# Altium integrated library Xilinx Virtex-E.IntLib: 288 symbols (part 42 of 73)
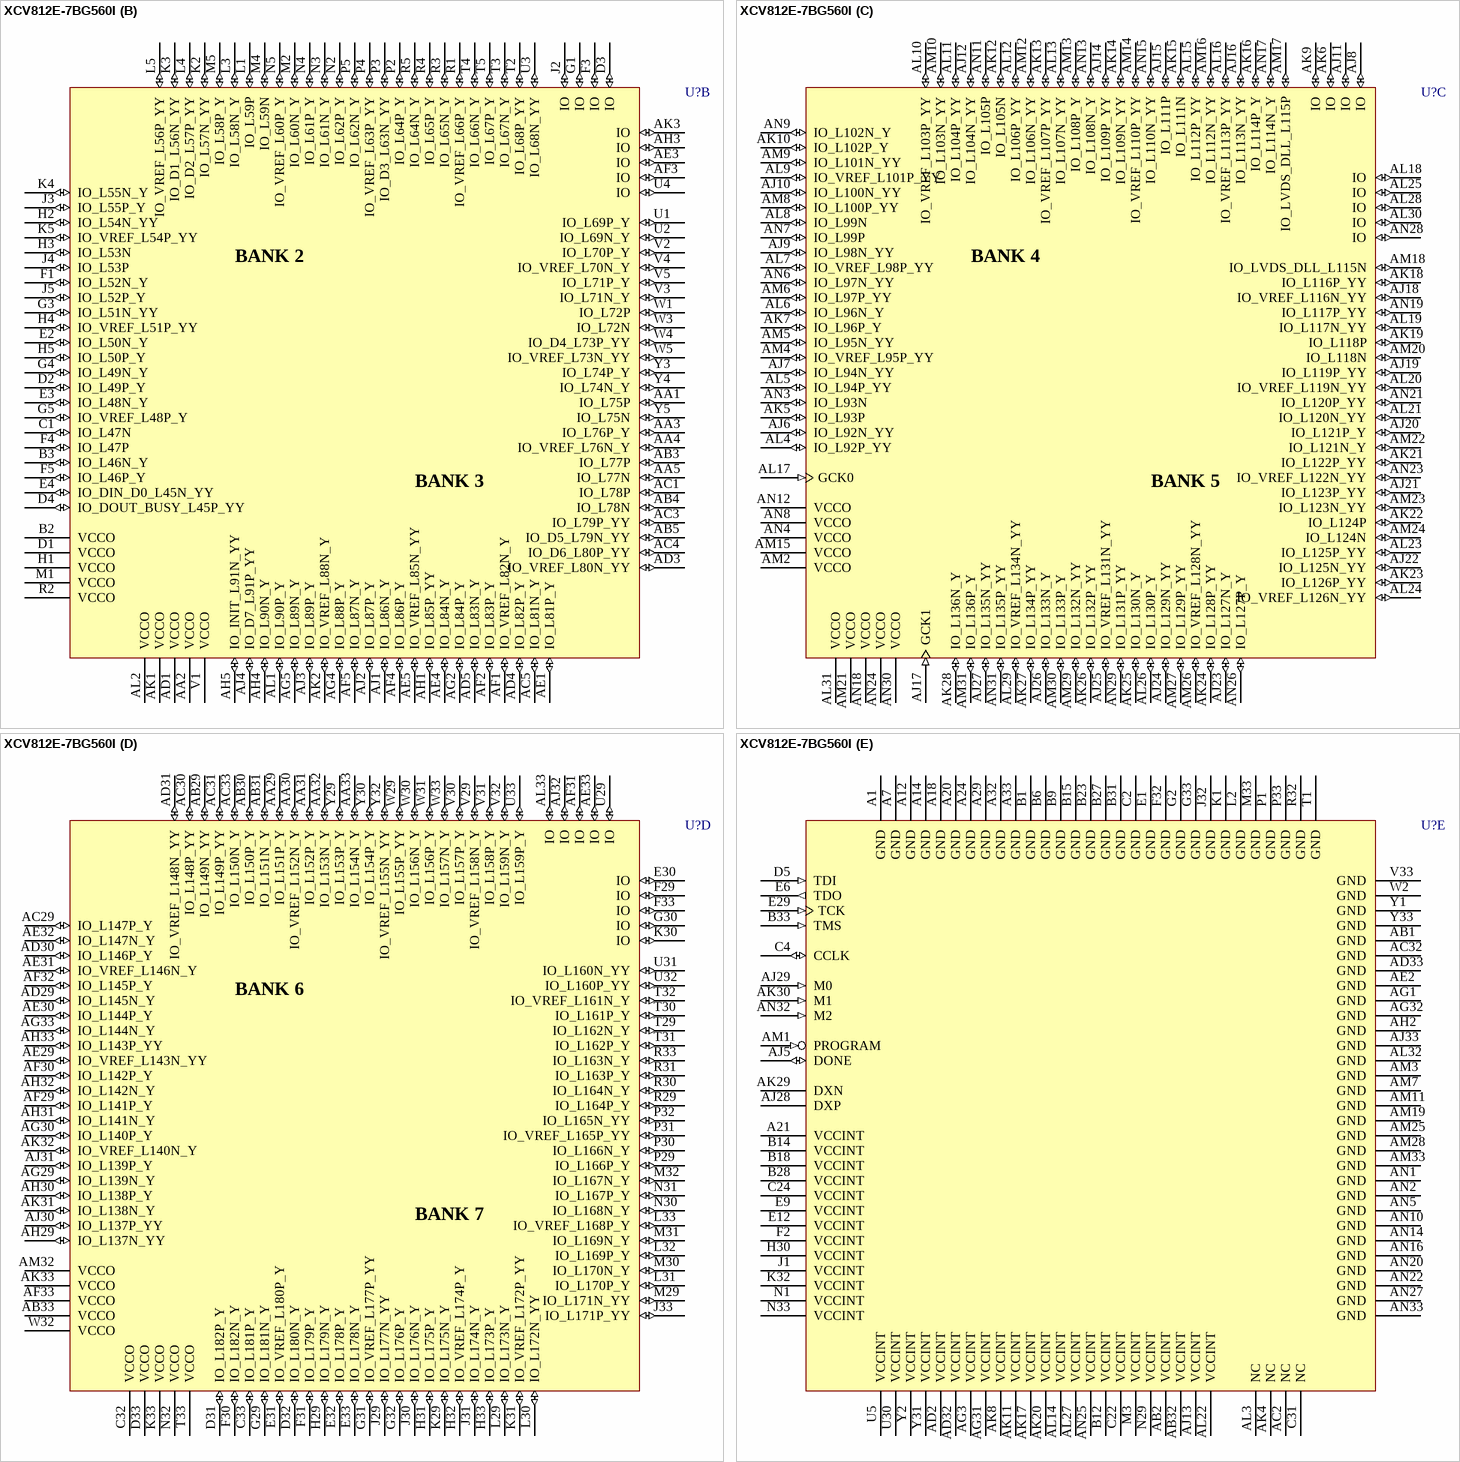
[diagram p430: symbol XCV812E-7BG560I]

## XCV812E-7BG560I
designator U?
Virtex-E 1.8V Extended Memory FPGA, 560-Ball BGA, Industrial Grade; PackageDocument: ver1.1, Apr-2001; Note: Solder pads are defined by the copper, i.e. non-soldermask defined (NSMD); Published: 19-Sep-2001; LatestRevisionDate: 17-Jul-2002; LatestRevisionNote: Re-released for DXP Platform.; DatasheetDocument: Mar-2003; PackageReference: BG560; Publisher: Altium Limited
footprint BG560 (560-Ball Metal Ball Grid Array (BG560))
3D model XCV812E-BG560 (560-Ball Metal Ball Grid Array (BG560))
signal-integrity model XCV812E_BG560 (Virtex-E)
part A pins: A2 IO_CS_L44P_YY (io), A3 IO (io), A4 IO_L42N_YY (io), A5 IO_L40N (io), A6 IO_VREF_L38P_YY (io), A8 IO_L36N_YY (io), A9 IO_L34P (io), A10 VCCO (power), A11 IO_L31N (io), A13 IO_L28N_Y (io), A15 IO_L25N (io), A16 VCCO (power), A17 GCK3 (in), A19 IO_VREF_L20N_YY (io), A22 VCCO (power), A23 IO_L13N_YY (io), A25 IO_L10P_YY (io), A26 VCCO (power), A27 IO (io), A28 IO_L6P (io), A30 VCCO (power), A31 IO_L1P_YY (io), B4 IO_L42P_YY (io), B5 IO_L40P (io), B7 IO_L38N_YY (io), B8 IO_L36P_YY (io), B10 IO_L33N_YY (io), B11 IO_L32N_YY (io), B13 VCCO (power), B16 IO_L23N_YY (io), B17 IO_L22P_Y (io), B19 VCCO (power), B20 IO_L18N (io), B21 IO_L16N_YY (io), B22 IO_L14P_YY (io), B24 IO_L11P_YY (io), B25 IO (io), B26 IO_L8P_YY (io), B29 IO_L4P_YY (io), B30 IO_L3N_Y (io), B32 VCCO (power), C3 VCCO (power), C5 IO_L43N_Y (io), C6 IO_L41N_YY (io), C7 IO_L39N_YY (io), C8 IO_L37P_Y (io), C9 IO_L35N_YY (io), C10 IO_L34N (io), C11 IO_L32P_YY (io), C12 IO_L30N_YY (io), C13 IO_L29N_YY (io), C14 IO_L27N_YY (io), C15 IO_L25P (io), C16 IO_L24P_YY (io), C17 IO_L22N_Y (io), C18 IO_LVDS_DLL_L21N (io), C19 IO_L19P_YY (io), C20 IO_L17P_YY (io), C21 IO_L15P_Y (io), C23 IO_L12P (io), C25 IO_L9N_Y (io), C26 IO_L7P_YY (io), C27 IO_L5P_YY (io), C28 IO (io), C29 IO_L2P_YY (io), C30 IO (io), D6 IO_WRITE_L44N_YY (io), D7 IO_VREF_L41P_YY (io), D8 IO_L39P_YY (io), D9 IO (io), D10 IO_VREF_L35P_YY (io), D11 IO_VREF_L33P_YY (io), D12 IO_L31P (io), D13 IO_VREF_L29P_YY (io), D14 IO_L27P_YY (io), D15 IO_L26N_YY (io), D16 IO_VREF_L23P_YY (io), D17 GCK2 (in), D18 IO_L20P_YY (io), D19 IO_L19N_YY (io), D20 IO_VREF_L17N_YY (io), D21 IO_L15N_Y (io), D22 IO_L13P_YY (io), D23 IO_L11N_YY (io), D24 IO_L9P_Y (io), D25 IO_L7N_YY (io), D26 IO_VREF_L5N_YY (io), D27 IO_L3P_Y (io), D28 IO_L1N_YY (io), D29 IO_L0P (io), D30 IO (io), E5 VCCO (power), E7 IO_L43P_Y (io), E8 IO (io), E10 IO_L37N_Y (io), E11 IO (io), E13 IO_L30P_YY (io), E14 IO_L28P_Y (io), E15 IO_VREF_L26P_YY (io), E16 IO_L24N_YY (io), E17 IO_LVDS_DLL_L21P (io), E18 IO (io), E19 IO_L18P (io), E20 IO_L16P_YY (io), E21 IO_VREF_L14N_YY (io), E22 IO_L12N (io), E23 IO_VREF_L10N_YY (io), E24 IO_VREF_L8N_YY (io), E25 IO_L6N (io), E26 IO_L4N_YY (io), E27 IO_VREF_L2N_YY (io), E28 IO_L0N (io)
part B pins: AA1 IO_L75P (io), AA2 VCCO (power), AA3 IO_L76P_Y (io), AA4 IO_VREF_L76N_Y (io), AA5 IO_L77N (io), AB3 IO_L77P (io), AB4 IO_L78N (io), AB5 IO_D5_L79N_YY (io), AC1 IO_L78P (io), AC3 IO_L79P_YY (io), AC4 IO_D6_L80P_YY (io), AC5 IO_L81N_Y (io), AD1 VCCO (power), AD3 IO_VREF_L80N_YY (io), AD4 IO_L82P_Y (io), AD5 IO_L83N_Y (io), AE1 IO_L81P_Y (io), AE3 IO (io), AE4 IO_L84N_Y (io), AE5 IO_VREF_L85N_YY (io), AF1 IO_VREF_L82N_Y (io), AF2 IO_L83P_Y (io), AF3 IO (io), AF4 IO_L86P_Y (io), AF5 IO_L87N_Y (io), AG2 IO_L84P_Y (io), AG4 IO_L88P_Y (io), AG5 IO_L89N_Y (io), AH1 IO_L85P_YY (io), AH3 IO (io), AH4 IO_L90N_Y (io), AH5 IO_INIT_L91N_YY (io), AJ1 IO_L86N_Y (io), AJ2 IO_L87P_Y (io), AJ3 IO_L89P_Y (io), AJ4 IO_D7_L91P_YY (io), AK1 VCCO (power), AK2 IO_VREF_L88N_Y (io), AK3 IO (io), AL1 IO_L90P_Y (io), AL2 VCCO (power), B2 VCCO (power), B3 IO_L46N_Y (io), C1 IO_L47N (io), D1 VCCO (power), D2 IO_L49P_Y (io), D3 IO (io), D4 IO_DOUT_BUSY_L45P_YY (io), E2 IO_L50N_Y (io), E3 IO_L48N_Y (io), E4 IO_DIN_D0_L45N_YY (io), F1 IO_L52N_Y (io), F3 IO (io), F4 IO_L47P (io), F5 IO_L46P_Y (io), G1 IO (io), G3 IO_L51N_YY (io), G4 IO_L49N_Y (io), G5 IO_VREF_L48P_Y (io), H1 VCCO (power), H2 IO_L54N_YY (io), H3 IO_L53N (io), H4 IO_VREF_L51P_YY (io), H5 IO_L50P_Y (io), J2 IO (io), J3 IO_L55P_Y (io), J4 IO_L53P (io), J5 IO_L52P_Y (io), K2 IO_L57N_YY (io), K3 IO_D1_L56N_YY (io), K4 IO_L55N_Y (io), K5 IO_VREF_L54P_YY (io), L1 IO_L59P (io), L3 IO_L58N_Y (io), L4 IO_D2_L57P_YY (io), L5 IO_VREF_L56P_YY (io), M1 VCCO (power), M2 IO_L60N_Y (io), M4 IO_L59N (io), M5 IO_L58P_Y (io), N2 IO_L62P_Y (io), N3 IO_L61N_Y (io), N4 IO_L61P_Y (io), N5 IO_VREF_L60P_Y (io), P2 IO_L64P_Y (io), P3 IO_D3_L63N_YY (io), P4 IO_VREF_L63P_YY (io), P5 IO_L62N_Y (io), R1 IO_VREF_L66P_Y (io), R2 VCCO (power), R3 IO_L65N_Y (io), R4 IO_L65P_Y (io), R5 IO_L64N_Y (io), T2 IO_L68P_YY (io), T3 IO_L67N_Y (io), T4 IO_L66N_Y (io), T5 IO_L67P_Y (io), U1 IO_L69P_Y (io), U2 IO_L69N_Y (io), U3 IO_L68N_YY (io), U4 IO (io), V1 VCCO (power), V2 IO_L70P_Y (io), V3 IO_L71N_Y (io), V4 IO_VREF_L70N_Y (io), V5 IO_L71P_Y (io), W1 IO_L72P (io), W3 IO_L72N (io), W4 IO_D4_L73P_YY (io), W5 IO_VREF_L73N_YY (io), Y3 IO_L74P_Y (io), Y4 IO_L74N_Y (io), Y5 IO_L75N (io)
part C pins: AJ6 IO_L92N_YY (io), AJ7 IO_L94N_YY (io), AJ8 IO (io), AJ9 IO_L98N_YY (io), AJ10 IO_L100N_YY (io), AJ11 IO (io), AJ12 IO_L104N_YY (io), AJ14 IO_L109P_YY (io), AJ15 IO_L111P (io), AJ16 IO_L113N_YY (io), AJ17 GCK1 (in), AJ18 IO_VREF_L116N_YY (io), AJ19 IO_L119P_YY (io), AJ20 IO_L121P_Y (io), AJ21 IO_L123P_YY (io), AJ22 IO_L125N_YY (io), AJ23 IO_L127N_Y (io), AJ24 IO_L129N_YY (io), AJ25 IO_VREF_L131N_YY (io), AJ26 IO_L133N_Y (io), AJ27 IO_L135N_YY (io), AK5 IO_L93P (io), AK6 IO (io), AK7 IO_L96P_Y (io), AK9 IO (io), AK10 IO_L102P_Y (io), AK12 IO_L105N (io), AK13 IO_VREF_L107P_YY (io), AK14 IO_L109N_YY (io), AK15 IO_L111N (io), AK16 IO_L114P_Y (io), AK18 IO_L116P_YY (io), AK19 IO_L118P (io), AK21 IO_L122P_YY (io), AK22 IO_L124P (io), AK23 IO_L126P_YY (io), AK24 IO_L128P_YY (io), AK25 IO_L130N_Y (io), AK26 IO_L132P_YY (io), AK27 IO_L134P_YY (io), AK28 IO_L136N_Y (io), AL4 IO_L92P_YY (io), AL5 IO_L94P_YY (io), AL6 IO_L96N_Y (io), AL7 IO_VREF_L98P_YY (io), AL8 IO_L99N (io), AL9 IO_VREF_L101P_YY (io), AL10 IO_VREF_L103P_YY (io), AL11 IO_L104P_YY (io), AL12 IO_L106P_YY (io), AL13 IO_L107N_YY (io), AL15 IO_L112P_YY (io), AL16 IO_VREF_L113P_YY (io), AL17 GCK0 (in), AL18 IO (io), AL19 IO_L117N_YY (io), AL20 IO_VREF_L119N_YY (io), AL21 IO_L120N_YY (io), AL23 IO_L125P_YY (io), AL24 IO_VREF_L126N_YY (io), AL25 IO (io), AL26 IO_L130P_Y (io), AL28 IO (io), AL29 IO_VREF_L134N_YY (io), AL30 IO (io), AL31 VCCO (power), AM2 VCCO (power), AM4 IO_VREF_L95P_YY (io), AM5 IO_L95N_YY (io), AM6 IO_L97P_YY (io), AM8 IO_L100P_YY (io), AM9 IO_L101N_YY (io), AM10 IO_L103N_YY (io), AM12 IO_L106N_YY (io), AM13 IO_L108P_Y (io), AM14 IO_VREF_L110P_YY (io), AM15 VCCO (power), AM16 IO_L112N_YY (io), AM17 IO_LVDS_DLL_L115P (io), AM18 IO_LVDS_DLL_L115N (io), AM20 IO_L118N (io), AM21 VCCO (power), AM22 IO_L121N_Y (io), AM23 IO_L123N_YY (io), AM24 IO_L124N (io), AM26 IO_VREF_L128N_YY (io), AM27 IO_L129P_YY (io), AM29 IO_L132N_YY (io), AM30 IO_L133P_Y (io), AM31 IO_L136P_Y (io), AN3 IO_L93N (io), AN4 VCCO (power), AN6 IO_L97N_YY (io), AN7 IO_L99P (io), AN8 VCCO (power), AN9 IO_L102N_Y (io), AN11 IO_L105P (io), AN12 VCCO (power), AN13 IO_L108N_Y (io), AN15 IO_L110N_YY (io), AN17 IO_L114N_Y (io), AN18 VCCO (power), AN19 IO_L117P_YY (io), AN21 IO_L120P_YY (io), AN23 IO_VREF_L122N_YY (io), AN24 VCCO (power), AN26 IO_L127P_Y (io), AN28 IO (io), AN29 IO_L131P_YY (io), AN30 VCCO (power), AN31 IO_L135P_YY (io)
part D pins: AA29 IO_L151P_Y (io), AA30 IO_VREF_L152N_Y (io), AA31 IO_L152P_Y (io), AA32 IO_L153N_Y (io), AA33 IO_L154N_Y (io), AB29 IO_L149N_YY (io), AB30 IO_L150P_Y (io), AB31 IO_L151N_Y (io), AB33 VCCO (power), AC29 IO_L147P_Y (io), AC30 IO_L148P_YY (io), AC31 IO_L149P_YY (io), AC33 IO_L150N_Y (io), AD29 IO_L145N_Y (io), AD30 IO_L146P_Y (io), AD31 IO_VREF_L148N_YY (io), AE29 IO_VREF_L143N_YY (io), AE30 IO_L144P_Y (io), AE31 IO_VREF_L146N_Y (io), AE32 IO_L147N_Y (io), AE33 IO (io), AF29 IO_L141P_Y (io), AF30 IO_L142P_Y (io), AF31 IO (io), AF32 IO_L145P_Y (io), AF33 VCCO (power), AG29 IO_L139N_Y (io), AG30 IO_L140P_Y (io), AG33 IO_L144N_Y (io), AH29 IO_L137N_YY (io), AH30 IO_L138P_Y (io), AH31 IO_L141N_Y (io), AH32 IO_L142N_Y (io), AH33 IO_L143P_YY (io), AJ30 IO_L137P_YY (io), AJ31 IO_L139P_Y (io), AJ32 IO (io), AK31 IO_L138N_Y (io), AK32 IO_VREF_L140N_Y (io), AK33 VCCO (power), AL33 IO (io), AM32 VCCO (power), C32 VCCO (power), C33 IO_L181P_Y (io), D31 IO_L182P_Y (io), D32 IO_L180N_Y (io), D33 VCCO (power), E30 IO (io), E31 IO_VREF_L180P_Y (io), E32 IO_L178P_Y (io), E33 IO_L178N_Y (io), F29 IO (io), F30 IO_L182N_Y (io), F31 IO_L179P_Y (io), F33 IO (io), G29 IO_L181N_Y (io), G30 IO (io), G31 IO_VREF_L177P_YY (io), G32 IO_L176P_Y (io), H29 IO_L179N_Y (io), H31 IO_L175P_Y (io), H32 IO_VREF_L174P_Y (io), H33 IO_L173P_Y (io), J29 IO_L177N_YY (io), J30 IO_L176N_Y (io), J31 IO_L174N_Y (io), J33 IO_L171P_YY (io), K29 IO_L175N_Y (io), K30 IO (io), K31 IO_VREF_L172P_YY (io), K33 VCCO (power), L29 IO_L173N_Y (io), L30 IO_L172N_YY (io), L31 IO_L170P_Y (io), L32 IO_L169P_Y (io), L33 IO_VREF_L168P_Y (io), M29 IO_L171N_YY (io), M30 IO_L170N_Y (io), M31 IO_L169N_Y (io), M32 IO_L167N_Y (io), N30 IO_L168N_Y (io), N31 IO_L167P_Y (io), N32 VCCO (power), P29 IO_L166P_Y (io), P30 IO_L166N_Y (io), P31 IO_VREF_L165P_YY (io), P32 IO_L165N_YY (io), R29 IO_L164P_Y (io), R30 IO_L164N_Y (io), R31 IO_L163P_Y (io), R33 IO_L163N_Y (io), T29 IO_L162N_Y (io), T30 IO_L161P_Y (io), T31 IO_L162P_Y (io), T32 IO_VREF_L161N_Y (io), T33 VCCO (power), U29 IO (io), U31 IO_L160N_YY (io), U32 IO_L160P_YY (io), U33 IO_L159P_Y (io), V29 IO_VREF_L158N_Y (io), V30 IO_L157P_Y (io), V31 IO_L158P_Y (io), V32 IO_L159N_Y (io), W29 IO_L155P_YY (io), W30 IO_L156N_Y (io), W31 IO_L156P_Y (io), W32 VCCO (power), W33 IO_L157N_Y (io), Y29 IO_L153P_Y (io), Y30 IO_L154P_Y (io), Y32 IO_VREF_L155N_YY (io)
part E pins: A1 GND (power), A7 GND (power), A12 GND (power), A14 GND (power), A18 GND (power), A20 GND (power), A21 VCCINT (power), A24 GND (power), A29 GND (power), A32 GND (power), A33 GND (power), AB1 GND (power), AB2 VCCINT (power), AB32 VCCINT (power), AC2 NC, AC32 GND (power), AD2 VCCINT (power), AD32 VCCINT (power), AD33 GND (power), AE2 GND (power), AG1 GND (power), AG3 VCCINT (power), AG31 VCCINT (power), AG32 GND (power), AH2 GND (power), AJ5 DONE (io), AJ13 VCCINT (power), AJ28 DXP, AJ29 M0 (in), AJ33 GND (power), AK4 NC, AK8 VCCINT (power), AK11 VCCINT (power), AK17 VCCINT (power), AK20 VCCINT (power), AK29 DXN, AK30 M1 (in), AL3 NC, AL14 VCCINT (power), AL22 VCCINT (power), AL27 VCCINT (power), AL32 GND (power), AM1 PROGRAM (in), AM3 GND (power), AM7 GND (power), AM11 GND (power), AM19 GND (power), AM25 GND (power), AM28 GND (power), AM33 GND (power), AN1 GND (power), AN2 GND (power), AN5 GND (power), AN10 GND (power), AN14 GND (power), AN16 GND (power), AN20 GND (power), AN22 GND (power), AN25 VCCINT (power), AN27 GND (power), AN32 M2 (in), AN33 GND (power), B1 GND (power), B6 GND (power), B9 GND (power), B12 VCCINT (power), B14 VCCINT (power), B15 GND (power), B18 VCCINT (power), B23 GND (power), B27 GND (power), B28 VCCINT (power), B31 GND (power), B33 TMS (in), C2 GND (power), C4 CCLK (io), C22 VCCINT (power), C24 VCCINT (power), C31 NC, D5 TDI (in), E1 GND (power), E6 TDO (out), E9 VCCINT (power), E12 VCCINT (power), E29 TCK (in), F2 VCCINT (power), F32 GND (power), G2 GND (power), G33 GND (power), H30 VCCINT (power), J1 VCCINT (power), J32 GND (power), K1 GND (power), K32 VCCINT (power), L2 GND (power), M3 VCCINT (power), M33 GND (power), N1 VCCINT (power), N29 VCCINT (power), N33 VCCINT (power), P1 GND (power), P33 GND (power), R32 GND (power), T1 GND (power), U5 VCCINT (power), U30 VCCINT (power), V33 GND (power), W2 GND (power), Y1 GND (power), Y2 VCCINT (power), Y31 VCCINT (power), Y33 GND (power)
part A text: BANK 0; BANK 1
part B text: BANK 2; BANK 3
part C text: BANK 4; BANK 5
part D text: BANK 6; BANK 7

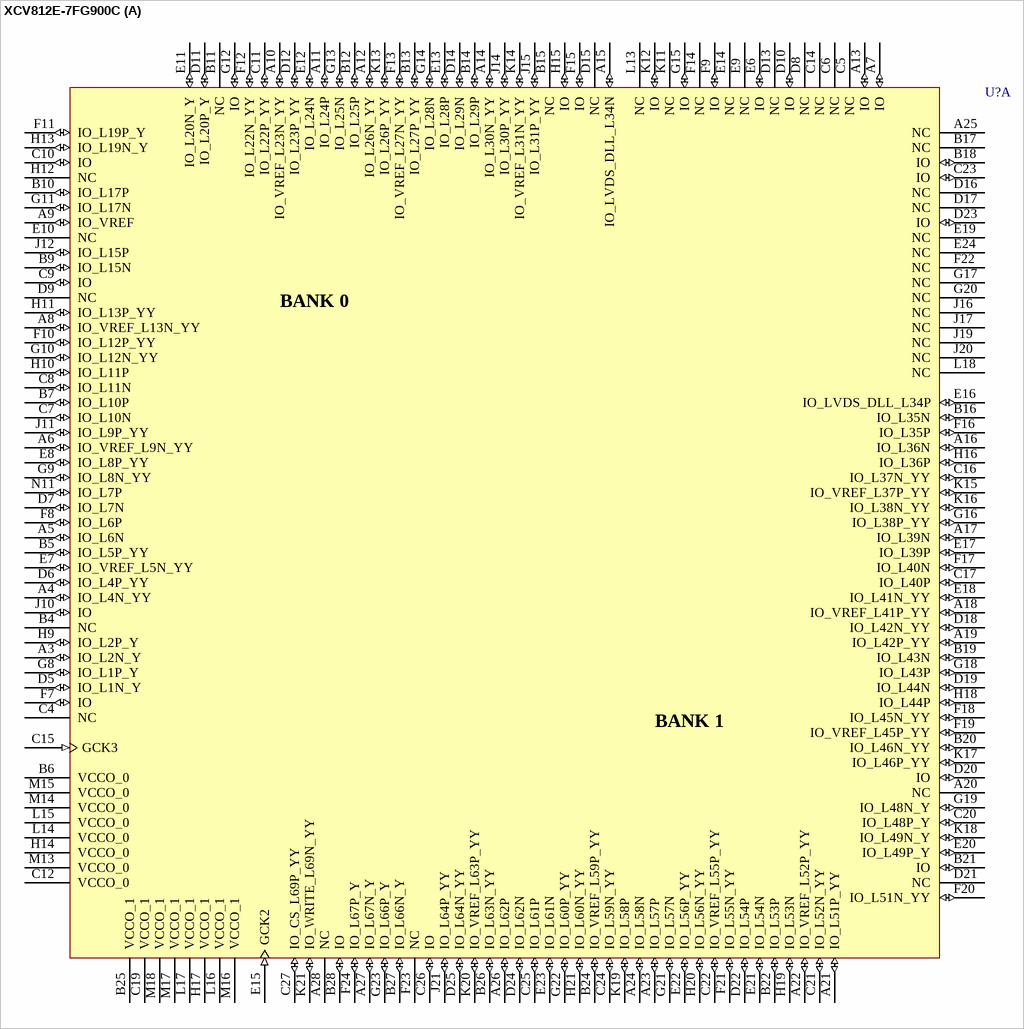
[diagram p296: symbol XCV812E-7FG900C]

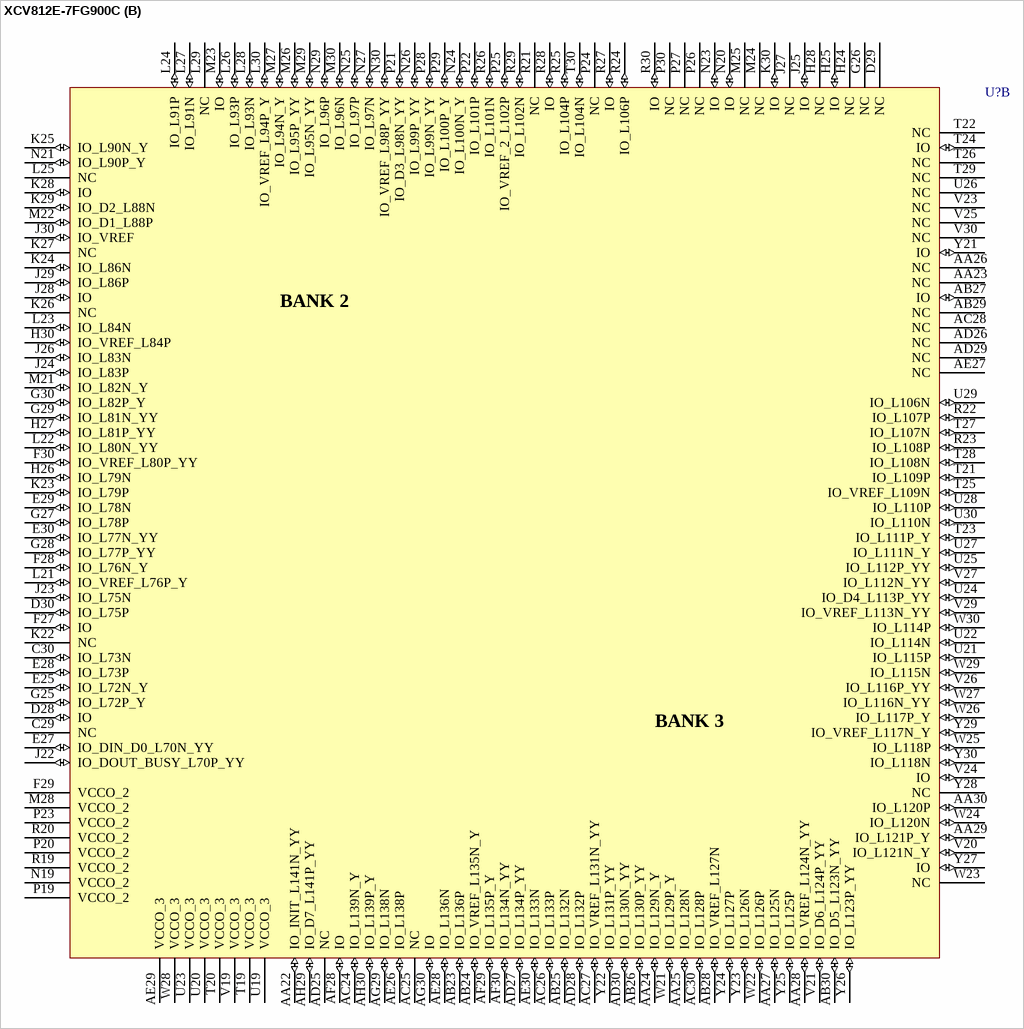
[diagram p297: symbol XCV812E-7FG900C]

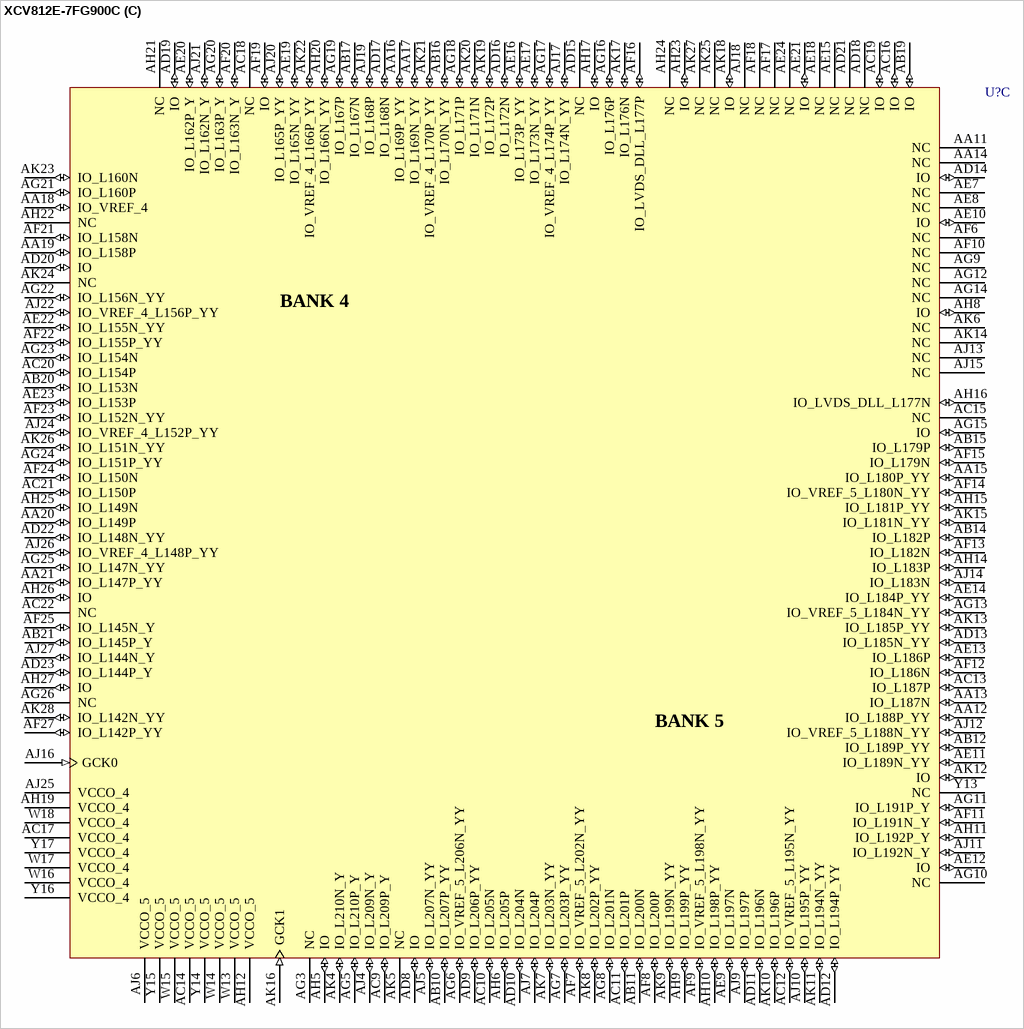
[diagram p298: symbol XCV812E-7FG900C]

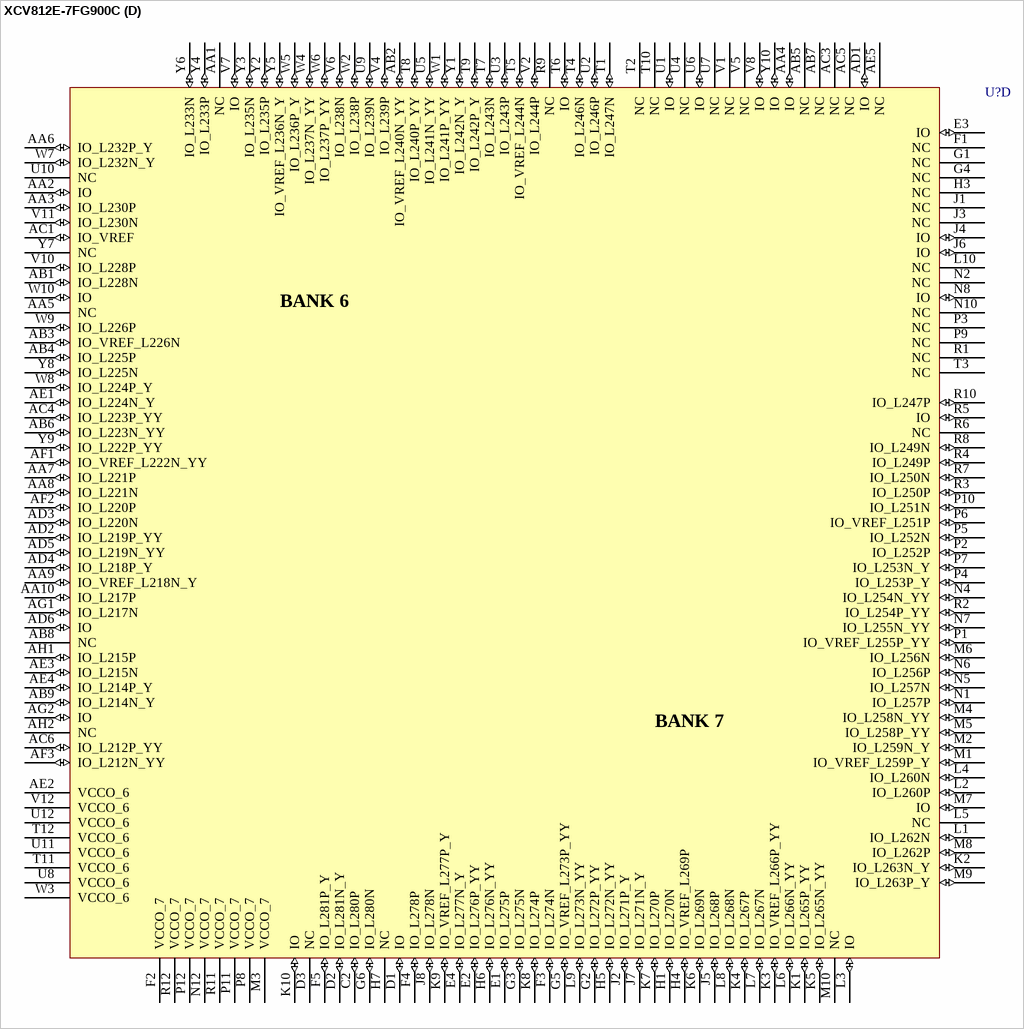
[diagram p299: symbol XCV812E-7FG900C]

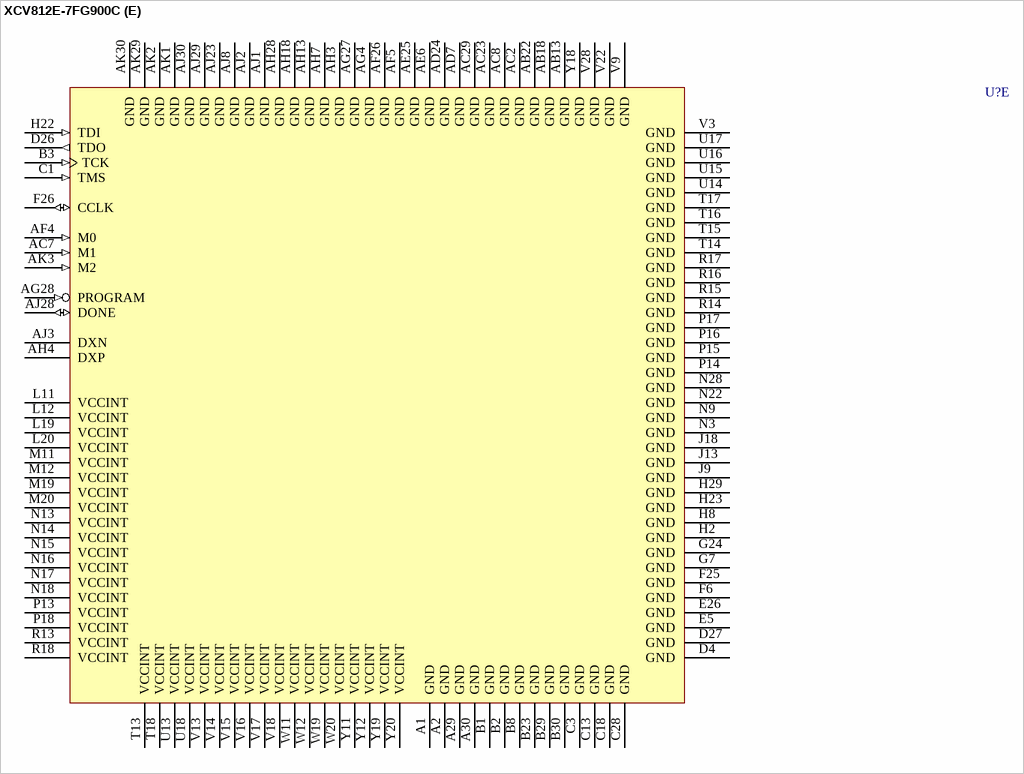
[diagram p300: symbol XCV812E-7FG900C]

## XCV812E-7FG900C
designator U?
Virtex-E 1.8V Extended Memory FPGA, 900-Ball FBGA, Commercial Grade; PackageDocument: ver1.1, Apr-2001; Note: Solder pads are defined by the copper, i.e. non-soldermask defined (NSMD); Published: 19-Sep-2001; LatestRevisionDate: 17-Jul-2002; LatestRevisionNote: Re-released for DXP Platform.; DatasheetDocument: Mar-2003; PackageReference: FG900; Publisher: Altium Limited; Code_IPC: PBGA 31X31 FE900
footprint FG900 (900-Ball Fine Pitch Ball Grid Array (FG900))
3D model XCV812E-FG900 (900-Ball Fine Pitch Ball Grid Array (FG900))
signal-integrity model XCV812E_FG900 (Virtex-E)
part A pins: A3 IO_L2N_Y (io), A4 IO_L4N_YY (io), A5 IO_L6N (io), A6 IO_VREF_L9N_YY (io), A7 IO (io), A8 IO_VREF_L13N_YY (io), A9 IO_VREF (io), A10 IO_VREF_L23N_YY (io), A11 IO_L24P (io), A12 IO_L26N_YY (io), A13 IO (io), A14 IO_L30N_YY (io), A15 IO_LVDS_DLL_L34N (io), A16 IO_L36N (io), A17 IO_L39N (io), A18 IO_VREF_L41P_YY (io), A19 IO_L42P_YY (io), A20 NC, A21 IO_L51P_YY (io), A22 IO_VREF_L52P_YY (io), A23 IO_L57P (io), A24 IO_L58N (io), A25 NC, A26 IO_L62P (io), A27 IO_L67N_Y (io), A28 NC, B4 NC, B5 IO_L5P_YY (io), B6 VCCO_0 (power), B7 IO_L10P (io), B9 IO_L15N (io), B10 IO_L17P (io), B11 NC, B12 IO_L25P (io), B13 IO_L27P_YY (io), B14 IO_L29P (io), B15 NC, B16 IO_L35N (io), B17 NC, B18 IO (io), B19 IO_L43N (io), B20 IO_L46N_YY (io), B21 IO (io), B22 IO_L53P (io), B24 IO_VREF_L59P_YY (io), B25 VCCO_1 (power), B26 IO_L63N_YY (io), B27 IO_L66N_Y (io), B28 IO (io), C4 NC, C5 NC, C6 NC, C7 IO_L10N (io), C8 IO_L11N (io), C9 IO (io), C10 IO (io), C11 IO_L22P_YY (io), C12 VCCO_0 (power), C14 NC, C15 GCK3 (in), C16 IO_L37N_YY (io), C17 IO_L40P (io), C19 VCCO_1 (power), C20 IO_L48P_Y (io), C21 IO_L52N_YY (io), C22 IO_VREF_L55P_YY (io), C23 IO (io), C24 IO_L59N_YY (io), C25 IO_L61P (io), C26 IO (io), C27 IO_CS_L69P_YY (io), D5 IO_L1N_Y (io), D6 IO_L4P_YY (io), D7 IO_L7N (io), D8 NC, D9 NC, D10 IO (io), D11 IO_L20P_Y (io), D12 IO_L23P_YY (io), D13 NC, D14 IO_L29N (io), D15 NC, D16 NC, D17 NC, D18 IO_L42N_YY (io), D19 IO_L44N (io), D20 IO (io), D21 NC, D22 IO_L54P (io), D23 IO (io), D24 IO_L62N (io), D25 IO_L64N_YY (io), E6 IO (io), E7 IO_VREF_L5N_YY (io), E8 IO_L8P_YY (io), E9 NC, E10 NC, E11 IO_L20N_Y (io), E12 IO_L24N (io), E13 IO_L28P (io), E14 NC, E15 GCK2 (in), E16 IO_LVDS_DLL_L34P (io), E17 IO_L39P (io), E18 IO_L41N_YY (io), E19 NC, E20 IO_L49P_Y (io), E21 IO_L54N (io), E22 IO_L56P_YY (io), E23 IO_L61N (io), E24 NC, F7 IO (io), F8 IO_L6P (io), F9 IO (io), F10 IO_L12P_YY (io), F11 IO_L19P_Y (io), F12 IO_L22N_YY (io), F13 IO_VREF_L27N_YY (io), F14 NC, F15 IO (io), F16 IO_L35P (io), F17 IO_L40N (io), F18 IO_L45N_YY (io), F19 IO_VREF_L45P_YY (io), F20 IO_L51N_YY (io), F21 IO_L55N_YY (io), F22 NC, F23 NC, F24 IO_L67P_Y (io), G8 IO_L1P_Y (io), G9 IO_L8N_YY (io), G10 IO_L12N_YY (io), G11 IO_L17N (io), G12 IO (io), G13 IO_L25N (io), G14 IO_L28N (io), G15 IO (io), G16 IO_L38P_YY (io), G17 NC, G18 IO_L43P (io), G19 IO_L48N_Y (io), G20 NC, G21 IO_L57N (io), G22 IO_L60P_YY (io), G23 IO_L66P_Y (io), H9 IO_L2P_Y (io), H10 IO_L11P (io), H11 IO_L13P_YY (io), H12 NC, H13 IO_L19N_Y (io), H14 VCCO_0 (power), H15 IO (io), H16 IO_L36P (io), H17 VCCO_1 (power), H18 IO_L44P (io), H19 IO_L53N (io), H20 IO_L56N_YY (io), H21 IO_L60N_YY (io), J10 IO (io), J11 IO_L9P_YY (io), J12 IO_L15P (io), J14 IO_L30P_YY (io), J15 IO_L31P_YY (io), J16 NC, J17 NC, J19 NC, J20 NC, J21 IO_L64P_YY (io), K11 NC, K12 IO (io), K13 IO_L26P_YY (io), K14 IO_VREF_L31N_YY (io), K15 IO_VREF_L37P_YY (io), K16 IO_L38N_YY (io), K17 IO_L46P_YY (io), K18 IO_L49N_Y (io), K19 IO_L58P (io), K20 IO_VREF_L63P_YY (io), K21 IO_WRITE_L69N_YY (io), L13 NC, L14 VCCO_0 (power), L15 VCCO_0 (power), L16 VCCO_1 (power), L17 VCCO_1 (power), L18 NC, M13 VCCO_0 (power), M14 VCCO_0 (power), M15 VCCO_0 (power), M16 VCCO_1 (power), M17 VCCO_1 (power), M18 VCCO_1 (power), N11 IO_L7P (io)
part B pins: AA22 IO_INIT_L141N_YY (io), AA23 NC, AA24 IO_L129N_Y (io), AA25 IO_L128N (io), AA26 NC, AA27 IO_L125N (io), AA28 IO_VREF_L124N_YY (io), AA29 IO_L121P_Y (io), AA30 IO_L120P (io), AB23 IO_L136P (io), AB24 IO_VREF_L135N_Y (io), AB25 IO_L132N (io), AB26 IO_L130P_YY (io), AB27 IO (io), AB28 IO_VREF_L127N (io), AB29 NC, AB30 IO_D5_L123N_YY (io), AC24 IO_L139N_Y (io), AC25 NC, AC26 IO_L133P (io), AC27 IO_VREF_L131N_YY (io), AC28 NC, AC30 IO_L128P (io), AD25 NC, AD26 NC, AD27 IO_L134P_YY (io), AD28 IO_L132P (io), AD29 NC, AD30 IO_L130N_YY (io), AE26 IO_L138P (io), AE27 NC, AE28 IO_L136N (io), AE29 VCCO_3 (power), AE30 IO_L133N (io), AF28 IO (io), AF29 IO_L135P_Y (io), AF30 IO_L134N_YY (io), AG29 IO_L138N (io), AG30 IO (io), AH29 IO_D7_L141P_YY (io), AH30 IO_L139P_Y (io), C29 NC, C30 IO_L73N (io), D28 IO (io), D29 NC, D30 IO_L75P (io), E25 IO_L72N_Y (io), E27 IO_DIN_D0_L70N_YY (io), E28 IO_L73P (io), E29 IO_L78N (io), E30 IO_L77N_YY (io), F27 IO (io), F28 IO_L76N_Y (io), F29 VCCO_2 (power), F30 IO_VREF_L80P_YY (io), G25 IO_L72P_Y (io), G26 NC, G27 IO_L78P (io), G28 IO_L77P_YY (io), G29 IO_L81N_YY (io), G30 IO_L82P_Y (io), H24 NC, H25 IO (io), H26 IO_L79N (io), H27 IO_L81P_YY (io), H28 NC, H30 IO_VREF_L84P (io), J22 IO_DOUT_BUSY_L70P_YY (io), J23 IO_L75N (io), J24 IO_L83P (io), J25 IO (io), J26 IO_L83N (io), J27 NC, J28 IO (io), J29 IO_L86P (io), J30 IO_VREF (io), K22 NC, K23 IO_L79P (io), K24 IO_L86N (io), K25 IO_L90N_Y (io), K26 NC, K27 NC, K28 IO (io), K29 IO_D2_L88N (io), K30 IO (io), L21 IO_VREF_L76P_Y (io), L22 IO_L80N_YY (io), L23 IO_L84N (io), L24 IO_L91P (io), L25 NC, L26 IO_L93P (io), L27 IO_L91N (io), L28 IO_L93N (io), L29 NC, L30 IO_VREF_L94P_Y (io), M21 IO_L82N_Y (io), M22 IO_D1_L88P (io), M23 IO (io), M24 NC, M25 NC, M26 IO_L95P_YY (io), M27 IO_L94N_Y (io), M28 VCCO_2 (power), M29 IO_L95N_YY (io), M30 IO_L96N (io), N19 VCCO_2 (power), N20 IO (io), N21 IO_L90P_Y (io), N23 IO (io), N24 IO_L100N_Y (io), N25 IO_L97P (io), N26 IO_L99P_YY (io), N27 IO_L97N (io), N29 IO_L96P (io), N30 IO_VREF_L98P_YY (io), P19 VCCO_2 (power), P20 VCCO_2 (power), P21 IO_D3_L98N_YY (io), P22 IO_L101P (io), P23 VCCO_2 (power), P24 NC, P25 IO_VREF_2_L102P (io), P26 NC, P27 NC, P28 IO_L99N_YY (io), P29 IO_L100P_Y (io), P30 NC, R19 VCCO_2 (power), R20 VCCO_2 (power), R21 NC, R22 IO_L107P (io), R23 IO_L108P (io), R24 IO_L106P (io), R25 IO_L104P (io), R26 IO_L101N (io), R27 IO (io), R28 IO (io), R29 IO_L102N (io), R30 IO (io), T19 VCCO_3 (power), T20 VCCO_3 (power), T21 IO_L109P (io), T22 NC, T23 IO_L111P_Y (io), T24 IO (io), T25 IO_VREF_L109N (io), T26 NC, T27 IO_L107N (io), T28 IO_L108N (io), T29 NC, T30 IO_L104N (io), U19 VCCO_3 (power), U20 VCCO_3 (power), U21 IO_L115P (io), U22 IO_L114N (io), U23 VCCO_3 (power), U24 IO_D4_L113P_YY (io), U25 IO_L112P_YY (io), U26 NC, U27 IO_L111N_Y (io), U28 IO_L110P (io), U29 IO_L106N (io), U30 IO_L110N (io), V19 VCCO_3 (power), V20 IO_L121N_Y (io), V21 IO_D6_L124P_YY (io), V23 NC, V24 IO (io), V25 NC, V26 IO_L116P_YY (io), V27 IO_L112N_YY (io), V29 IO_VREF_L113N_YY (io), V30 NC, W21 IO_L129P_Y (io), W22 IO_L126P (io), W23 NC, W24 IO_L120N (io), W25 IO_L118P (io), W26 IO_L117P_Y (io), W27 IO_L116N_YY (io), W28 VCCO_3 (power), W29 IO_L115N (io), W30 IO_L114P (io), Y21 IO (io), Y22 IO_L131P_YY (io), Y23 IO_L126N (io), Y24 IO_L127P (io), Y25 IO_L125P (io), Y26 IO_L123P_YY (io), Y27 IO (io), Y28 NC, Y29 IO_VREF_L117N_Y (io), Y30 IO_L118N (io)
part C pins: AA11 NC, AA12 IO_L188P_YY (io), AA13 IO_L187N (io), AA14 NC, AA15 IO_L180P_YY (io), AA16 IO_L169P_YY (io), AA17 IO_L169N_YY (io), AA18 IO_VREF_4 (io), AA19 IO_L158P (io), AA20 IO_L149P (io), AA21 IO_L147P_YY (io), AB10 IO_L207P_YY (io), AB11 IO_L200N (io), AB12 IO_L189P_YY (io), AB14 IO_L182P (io), AB15 IO_L179P (io), AB16 IO_L170N_YY (io), AB17 IO_L167N (io), AB19 IO (io), AB20 IO_L153N (io), AB21 IO_L145P_Y (io), AC9 IO_L209P_Y (io), AC10 IO_L205N (io), AC11 IO_L201P (io), AC12 IO_VREF_5_L195N_YY (io), AC13 IO_L187P (io), AC14 VCCO_5 (power), AC15 NC, AC16 IO (io), AC17 VCCO_4 (power), AC18 NC, AC19 IO (io), AC20 IO_L154P (io), AC21 IO_L150P (io), AC22 NC, AD8 IO (io), AD9 IO_L206P_YY (io), AD10 IO_L204N (io), AD11 IO_L196N (io), AD12 IO_L194P_YY (io), AD13 IO_L185N_YY (io), AD14 IO (io), AD15 NC, AD16 IO_L172N (io), AD17 IO_L168N (io), AD18 NC, AD19 IO (io), AD20 IO (io), AD21 NC, AD22 IO_L148N_YY (io), AD23 IO_L144P_Y (io), AE7 NC, AE8 NC, AE9 IO_L197N (io), AE10 IO (io), AE11 IO_L189N_YY (io), AE12 IO (io), AE13 IO_L186P (io), AE14 IO_L184P_YY (io), AE15 NC, AE16 IO_L173P_YY (io), AE17 IO_L173N_YY (io), AE18 NC, AE19 IO_L165N_YY (io), AE20 IO_L162P_Y (io), AE21 IO (io), AE22 IO_L155N_YY (io), AE23 IO_L153P (io), AE24 NC, AF6 NC, AF7 IO_VREF_5_L202N_YY (io), AF8 IO_L200P (io), AF9 IO_VREF_5_L198N_YY (io), AF10 NC, AF11 IO_L191N_Y (io), AF12 IO_L186N (io), AF13 IO_L182N (io), AF14 IO_VREF_5_L180N_YY (io), AF15 IO_L179N (io), AF16 IO_LVDS_DLL_L177P (io), AF17 NC, AF18 NC, AF19 IO (io), AF20 IO_L163N_Y (io), AF21 IO_L158N (io), AF22 IO_L155P_YY (io), AF23 IO_L152N_YY (io), AF24 IO_L150N (io), AF25 IO_L145N_Y (io), AF27 IO_L142P_YY (io), AG3 NC, AG5 IO_L210P_Y (io), AG6 IO_VREF_5_L206N_YY (io), AG7 IO_L203P_YY (io), AG8 IO_L201N (io), AG9 NC, AG10 NC, AG11 IO_L191P_Y (io), AG12 NC, AG13 IO_VREF_5_L184N_YY (io), AG14 NC, AG15 IO (io), AG16 IO_L176P (io), AG17 IO_VREF_4_L174P_YY (io), AG18 IO_L171P (io), AG19 IO_L167P (io), AG20 IO_L163P_Y (io), AG21 IO_L160P (io), AG22 IO_L156N_YY (io), AG23 IO_L154N (io), AG24 IO_L151P_YY (io), AG25 IO_L147N_YY (io), AG26 NC, AH5 IO (io), AH6 IO_L205P (io), AH8 IO (io), AH9 IO_L199P_YY (io), AH10 IO_L198P_YY (io), AH11 IO_L192P_Y (io), AH12 VCCO_5 (power), AH14 IO_L183P (io), AH15 IO_L181P_YY (io), AH16 IO_LVDS_DLL_L177N (io), AH17 IO (io), AH19 VCCO_4 (power), AH20 IO_L166N_YY (io), AH21 NC, AH22 NC, AH23 IO (io), AH24 NC, AH25 IO_L149N (io), AH26 IO (io), AH27 IO (io), AJ4 IO_L209N_Y (io), AJ5 IO_L207N_YY (io), AJ6 VCCO_5 (power), AJ7 IO_L204P (io), AJ9 IO_L197P (io), AJ10 IO_L195P_YY (io), AJ11 IO_L192N_Y (io), AJ12 IO_VREF_5_L188N_YY (io), AJ13 NC, AJ14 IO_L183N (io), AJ15 NC, AJ16 GCK0 (in), AJ17 IO_L174N_YY (io), AJ18 NC, AJ19 IO_L168P (io), AJ20 IO_L165P_YY (io), AJ21 IO_L162N_Y (io), AJ22 IO_VREF_4_L156P_YY (io), AJ24 IO_VREF_4_L152P_YY (io), AJ25 VCCO_4 (power), AJ26 IO_VREF_4_L148P_YY (io), AJ27 IO_L144N_Y (io), AK4 IO_L210N_Y (io), AK5 NC, AK6 NC, AK7 IO_L203N_YY (io), AK8 IO_L202P_YY (io), AK9 IO_L199N_YY (io), AK10 IO_L196P (io), AK11 IO_L194N_YY (io), AK12 IO (io), AK13 IO_L185P_YY (io), AK14 NC, AK15 IO_L181N_YY (io), AK16 GCK1 (in), AK17 IO_L176N (io), AK18 IO (io), AK19 IO_L172P (io), AK20 IO_L171N (io), AK21 IO_VREF_4_L170P_YY (io), AK22 IO_VREF_4_L166P_YY (io), AK23 IO_L160N (io), AK24 NC, AK25 NC, AK26 IO_L151N_YY (io), AK27 NC, AK28 IO_L142N_YY (io), W13 VCCO_5 (power), W14 VCCO_5 (power), W15 VCCO_5 (power), W16 VCCO_4 (power), W17 VCCO_4 (power), W18 VCCO_4 (power), Y13 NC, Y14 VCCO_5 (power), Y15 VCCO_5 (power), Y16 VCCO_4 (power), Y17 VCCO_4 (power)
part D pins: AA1 NC, AA2 IO (io), AA3 IO_L230P (io), AA4 IO (io), AA5 NC, AA6 IO_L232P_Y (io), AA7 IO_L221P (io), AA8 IO_L221N (io), AA9 IO_VREF_L218N_Y (io), AA10 IO_L217P (io), AB1 IO_L228N (io), AB2 IO_VREF_L240N_YY (io), AB3 IO_VREF_L226N (io), AB4 IO_L225P (io), AB5 NC, AB6 IO_L223N_YY (io), AB7 NC, AB8 NC, AB9 IO_L214N_Y (io), AC1 IO_VREF (io), AC3 NC, AC4 IO_L223P_YY (io), AC5 NC, AC6 IO_L212P_YY (io), AD1 IO (io), AD2 IO_L219P_YY (io), AD3 IO_L220N (io), AD4 IO_L218P_Y (io), AD5 IO_L219N_YY (io), AD6 IO (io), AE1 IO_L224N_Y (io), AE2 VCCO_6 (power), AE3 IO_L215N (io), AE4 IO_L214P_Y (io), AE5 NC, AF1 IO_VREF_L222N_YY (io), AF2 IO_L220P (io), AF3 IO_L212N_YY (io), AG1 IO_L217N (io), AG2 IO (io), AH1 IO_L215P (io), AH2 NC, C2 IO_L280P (io), D1 IO (io), D2 IO_L281N_Y (io), D3 NC, E1 IO_L275P (io), E2 IO_L276P_YY (io), E3 IO (io), E4 IO_L277N_Y (io), F1 NC, F2 VCCO_7 (power), F3 IO_L274N (io), F4 IO_L278P (io), F5 IO_L281P_Y (io), G1 NC, G2 IO_L272P_YY (io), G3 IO_L275N (io), G4 NC, G5 IO_VREF_L273P_YY (io), G6 IO_L280N (io), H1 IO_L270N (io), H3 NC, H4 IO_VREF_L269P (io), H5 IO_L272N_YY (io), H6 IO_L276N_YY (io), H7 NC, J1 NC, J2 IO_L271P_Y (io), J3 NC, J4 IO (io), J5 IO_L268P (io), J6 IO (io), J7 IO_L271N_Y (io), J8 IO_L278N (io), K1 IO_L265P_YY (io), K2 IO_L263N_Y (io), K3 IO_VREF_L266P_YY (io), K4 IO_L267P (io), K5 IO_L265N_YY (io), K6 IO_L269N (io), K7 IO_L270P (io), K8 IO_L274P (io), K9 IO_VREF_L277P_Y (io), K10 IO (io), L1 IO_L262N (io), L2 IO_L260P (io), L3 IO (io), L4 IO_L260N (io), L5 NC, L6 IO_L266N_YY (io), L7 IO_L267N (io), L8 IO_L268N (io), L9 IO_L273N_YY (io), L10 NC, M1 IO_VREF_L259P_Y (io), M2 IO_L259N_Y (io), M3 VCCO_7 (power), M4 IO_L258N_YY (io), M5 IO_L258P_YY (io), M6 IO_L256N (io), M7 IO (io), M8 IO_L262P (io), M9 IO_L263P_Y (io), M10 NC, N1 IO_L257P (io), N2 NC, N4 IO_L254N_YY (io), N5 IO_L257N (io), N6 IO_L256P (io), N7 IO_L255N_YY (io), N8 IO (io), N10 NC, N12 VCCO_7 (power), P1 IO_VREF_L255P_YY (io), P2 IO_L252P (io), P3 NC, P4 IO_L253P_Y (io), P5 IO_L252N (io), P6 IO_VREF_L251P (io), P7 IO_L253N_Y (io), P8 VCCO_7 (power), P9 NC, P10 IO_L251N (io), P11 VCCO_7 (power), P12 VCCO_7 (power), R1 NC, R2 IO_L254P_YY (io), R3 IO_L250P (io), R4 IO_L249P (io), R5 IO (io), R6 NC, R7 IO_L250N (io), R8 IO_L249N (io), R9 NC, R10 IO_L247P (io), R11 VCCO_7 (power), R12 VCCO_7 (power), T1 IO_L247N (io), T2 NC, T3 NC, T4 IO_L246N (io), T5 IO_VREF_L244N (io), T6 IO (io), T7 IO_L243N (io), T8 IO_L240P_YY (io), T9 IO_L242P_Y (io), T10 NC, T11 VCCO_6 (power), T12 VCCO_6 (power), U1 IO (io), U2 IO_L246P (io), U3 IO_L243P (io), U4 NC, U5 IO_L241N_YY (io), U6 IO (io), U7 NC, U8 VCCO_6 (power), U9 IO_L239N (io), U10 NC, U11 VCCO_6 (power), U12 VCCO_6 (power), V1 NC, V2 IO_L244P (io), V4 IO_L239P (io), V5 NC, V6 IO_L238N (io), V7 IO (io), V8 IO (io), V10 IO_L228P (io), V11 IO_L230N (io), V12 VCCO_6 (power), W1 IO_L241P_YY (io), W2 IO_L238P (io), W3 VCCO_6 (power), W4 IO_L237N_YY (io), W5 IO_L236P_Y (io), W6 IO_L237P_YY (io), W7 IO_L232N_Y (io), W8 IO_L224P_Y (io), W9 IO_L226P (io), W10 IO (io), Y1 IO_L242N_Y (io), Y2 IO_L235P (io), Y3 IO_L235N (io), Y4 IO_L233P (io), Y5 IO_VREF_L236N_Y (io), Y6 IO_L233N (io), Y7 NC, Y8 IO_L225N (io), Y9 IO_L222P_YY (io), Y10 IO (io)
part E pins: A1 GND (power), A2 GND (power), A29 GND (power), A30 GND (power), AB13 GND (power), AB18 GND (power), AB22 GND (power), AC2 GND (power), AC7 M1 (in), AC8 GND (power), AC23 GND (power), AC29 GND (power), AD7 GND (power), AD24 GND (power), AE6 GND (power), AE25 GND (power), AF4 M0 (in), AF5 GND (power), AF26 GND (power), AG4 GND (power), AG27 GND (power), AG28 PROGRAM (in), AH3 GND (power), AH4 DXP, AH7 GND (power), AH13 GND (power), AH18 GND (power), AH28 GND (power), AJ1 GND (power), AJ2 GND (power), AJ3 DXN, AJ8 GND (power), AJ23 GND (power), AJ28 DONE (io), AJ29 GND (power), AJ30 GND (power), AK1 GND (power), AK2 GND (power), AK3 M2 (in), AK29 GND (power), AK30 GND (power), B1 GND (power), B2 GND (power), B3 TCK (in), B8 GND (power), B23 GND (power), B29 GND (power), B30 GND (power), C1 TMS (in), C3 GND (power), C13 GND (power), C18 GND (power), C28 GND (power), D4 GND (power), D26 TDO (out), D27 GND (power), E5 GND (power), E26 GND (power), F6 GND (power), F25 GND (power), F26 CCLK (io), G7 GND (power), G24 GND (power), H2 GND (power), H8 GND (power), H22 TDI (in), H23 GND (power), H29 GND (power), J9 GND (power), J13 GND (power), J18 GND (power), L11 VCCINT (power), L12 VCCINT (power), L19 VCCINT (power), L20 VCCINT (power), M11 VCCINT (power), M12 VCCINT (power), M19 VCCINT (power), M20 VCCINT (power), N3 GND (power), N9 GND (power), N13 VCCINT (power), N14 VCCINT (power), N15 VCCINT (power), N16 VCCINT (power), N17 VCCINT (power), N18 VCCINT (power), N22 GND (power), N28 GND (power), P13 VCCINT (power), P14 GND (power), P15 GND (power), P16 GND (power), P17 GND (power), P18 VCCINT (power), R13 VCCINT (power), R14 GND (power), R15 GND (power), R16 GND (power), R17 GND (power), R18 VCCINT (power), T13 VCCINT (power), T14 GND (power), T15 GND (power), T16 GND (power), T17 GND (power), T18 VCCINT (power), U13 VCCINT (power), U14 GND (power), U15 GND (power), U16 GND (power), U17 GND (power), U18 VCCINT (power), V3 GND (power), V9 GND (power), V13 VCCINT (power), V14 VCCINT (power), V15 VCCINT (power), V16 VCCINT (power), V17 VCCINT (power), V18 VCCINT (power), V22 GND (power), V28 GND (power), W11 VCCINT (power), W12 VCCINT (power), W19 VCCINT (power), W20 VCCINT (power), Y11 VCCINT (power), Y12 VCCINT (power), Y18 GND (power), Y19 VCCINT (power), Y20 VCCINT (power)
part A text: BANK 0; BANK 1
part B text: BANK 2; BANK 3
part C text: BANK 4; BANK 5
part D text: BANK 6; BANK 7

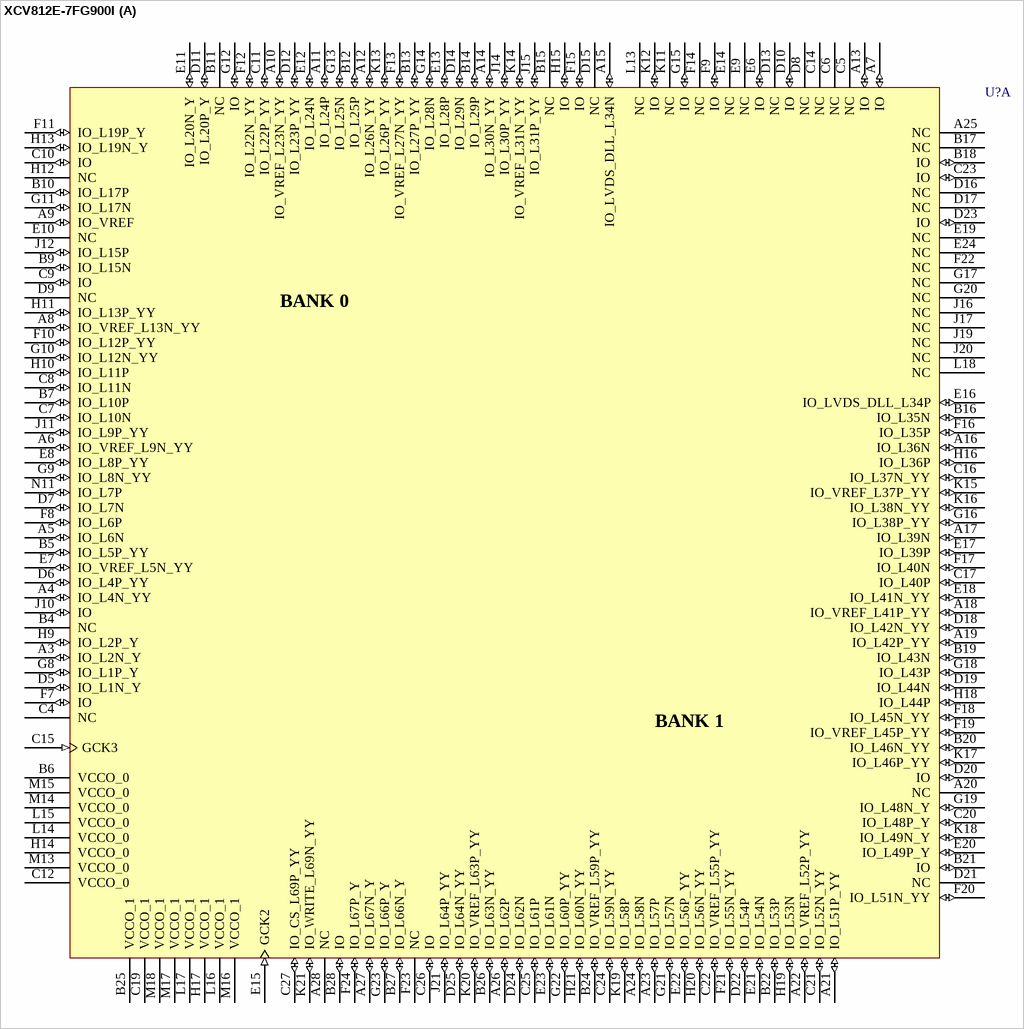
[diagram p301: symbol XCV812E-7FG900I]

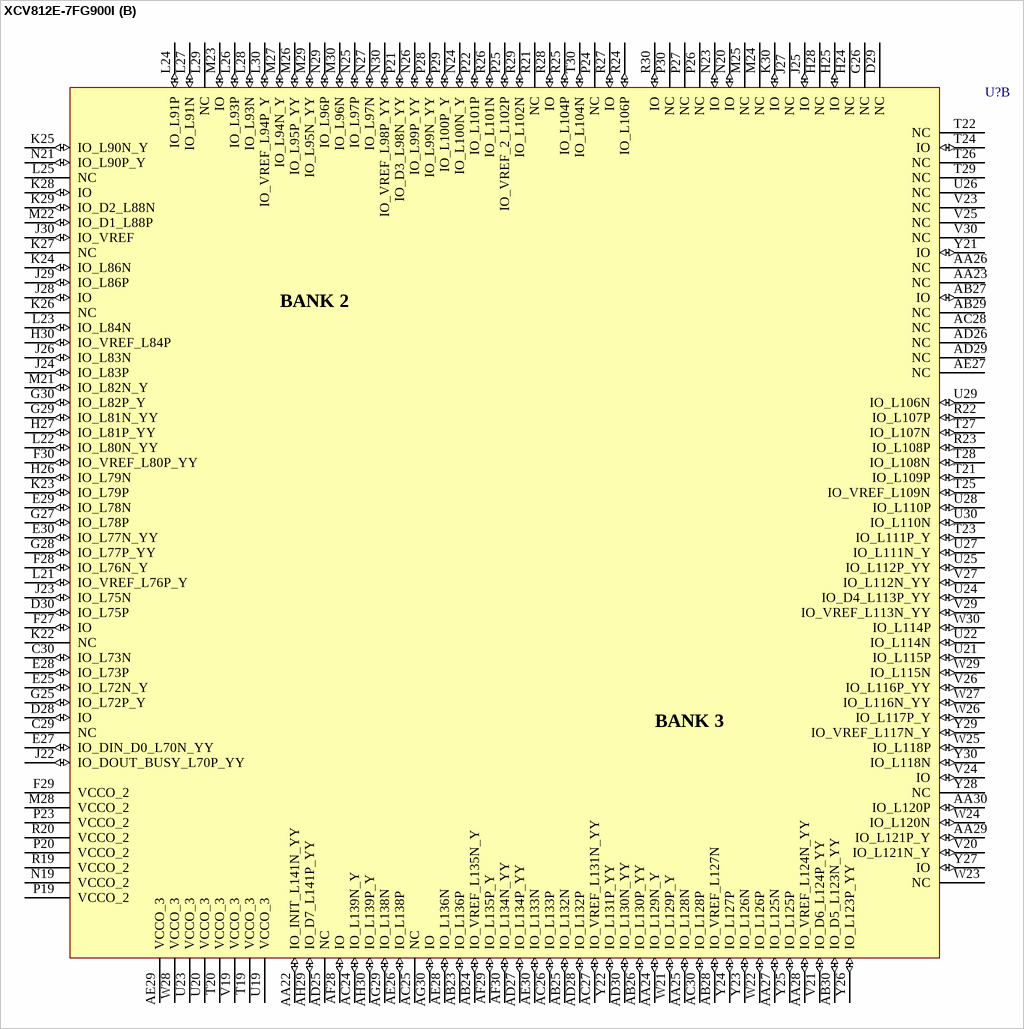
[diagram p302: symbol XCV812E-7FG900I]

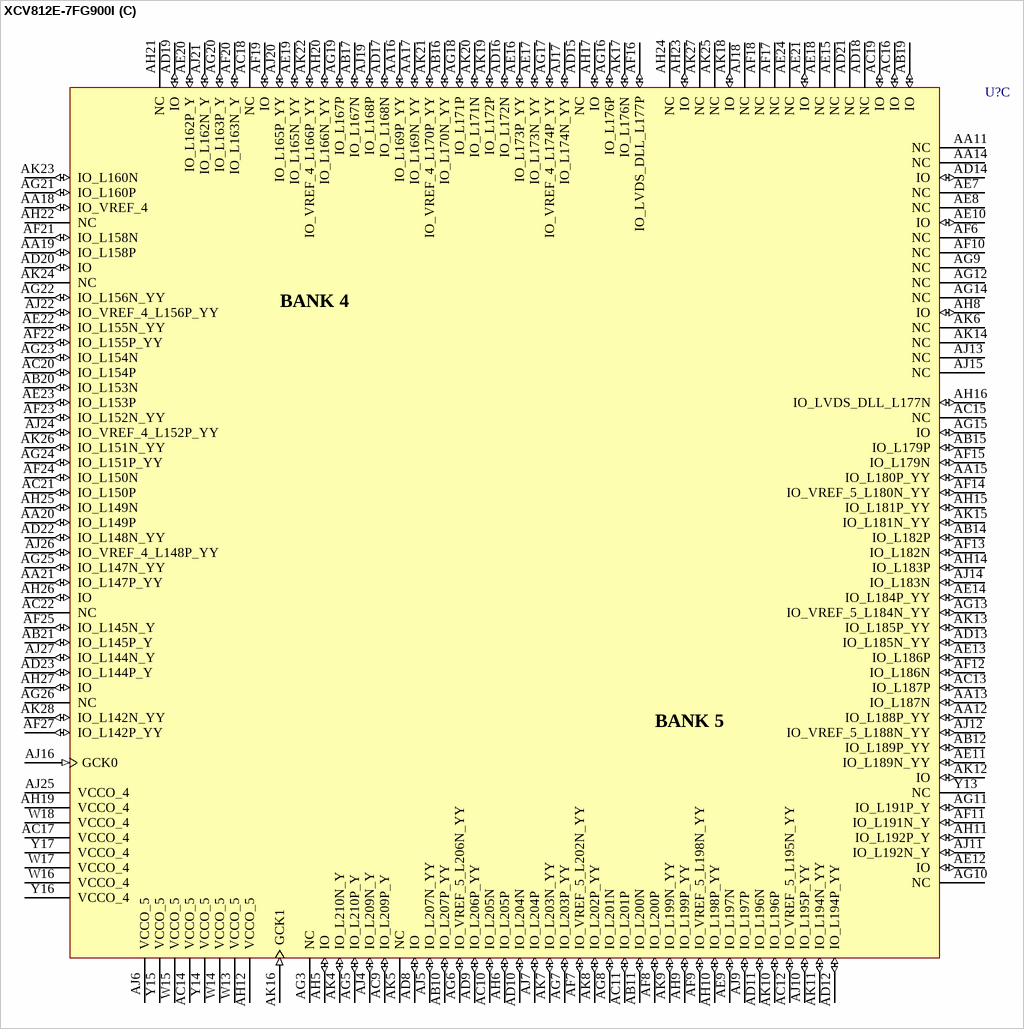
[diagram p303: symbol XCV812E-7FG900I]

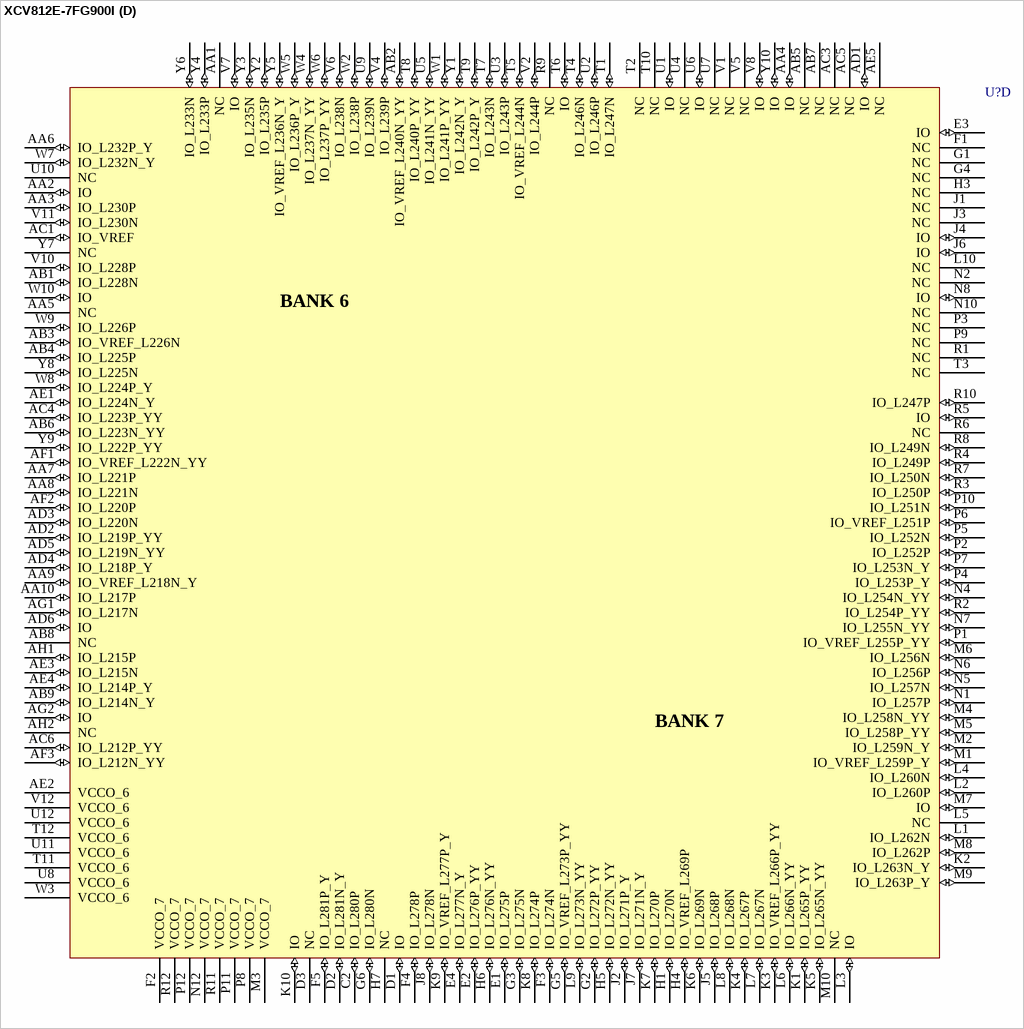
[diagram p304: symbol XCV812E-7FG900I]

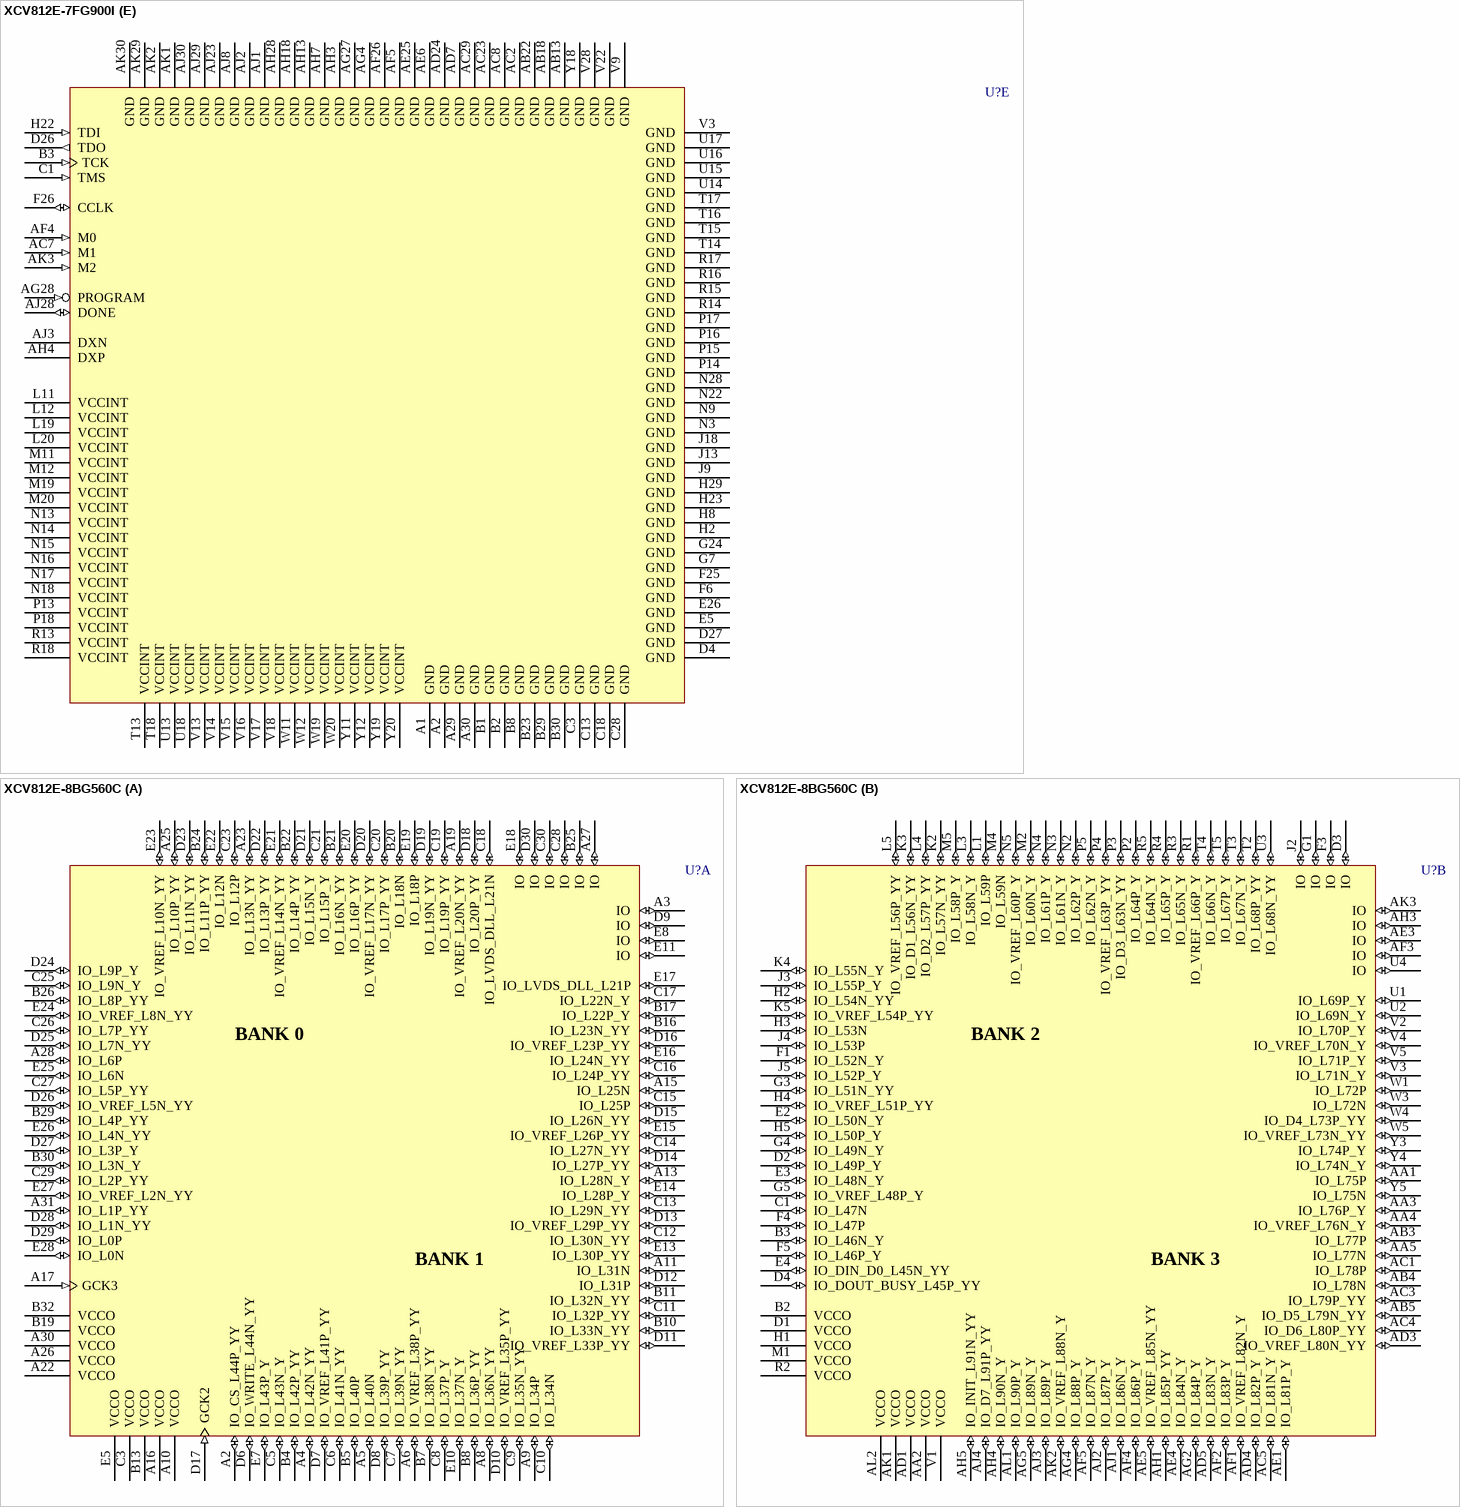
[diagram p305: symbols XCV812E-7FG900I to XCV812E-8BG560C]

## XCV812E-7FG900I
designator U?
Virtex-E 1.8V Extended Memory FPGA, 900-Ball FBGA, Industrial Grade; PackageDocument: ver1.1, Apr-2001; Note: Solder pads are defined by the copper, i.e. non-soldermask defined (NSMD); Published: 19-Sep-2001; LatestRevisionDate: 17-Jul-2002; LatestRevisionNote: Re-released for DXP Platform.; DatasheetDocument: Mar-2003; PackageReference: FG900; Publisher: Altium Limited; Code_IPC: PBGA 31X31 FE900
footprint FG900 (900-Ball Fine Pitch Ball Grid Array (FG900))
3D model XCV812E-FG900 (900-Ball Fine Pitch Ball Grid Array (FG900))
signal-integrity model XCV812E_FG900 (Virtex-E)
part A pins: A3 IO_L2N_Y (io), A4 IO_L4N_YY (io), A5 IO_L6N (io), A6 IO_VREF_L9N_YY (io), A7 IO (io), A8 IO_VREF_L13N_YY (io), A9 IO_VREF (io), A10 IO_VREF_L23N_YY (io), A11 IO_L24P (io), A12 IO_L26N_YY (io), A13 IO (io), A14 IO_L30N_YY (io), A15 IO_LVDS_DLL_L34N (io), A16 IO_L36N (io), A17 IO_L39N (io), A18 IO_VREF_L41P_YY (io), A19 IO_L42P_YY (io), A20 NC, A21 IO_L51P_YY (io), A22 IO_VREF_L52P_YY (io), A23 IO_L57P (io), A24 IO_L58N (io), A25 NC, A26 IO_L62P (io), A27 IO_L67N_Y (io), A28 NC, B4 NC, B5 IO_L5P_YY (io), B6 VCCO_0 (power), B7 IO_L10P (io), B9 IO_L15N (io), B10 IO_L17P (io), B11 NC, B12 IO_L25P (io), B13 IO_L27P_YY (io), B14 IO_L29P (io), B15 NC, B16 IO_L35N (io), B17 NC, B18 IO (io), B19 IO_L43N (io), B20 IO_L46N_YY (io), B21 IO (io), B22 IO_L53P (io), B24 IO_VREF_L59P_YY (io), B25 VCCO_1 (power), B26 IO_L63N_YY (io), B27 IO_L66N_Y (io), B28 IO (io), C4 NC, C5 NC, C6 NC, C7 IO_L10N (io), C8 IO_L11N (io), C9 IO (io), C10 IO (io), C11 IO_L22P_YY (io), C12 VCCO_0 (power), C14 NC, C15 GCK3 (in), C16 IO_L37N_YY (io), C17 IO_L40P (io), C19 VCCO_1 (power), C20 IO_L48P_Y (io), C21 IO_L52N_YY (io), C22 IO_VREF_L55P_YY (io), C23 IO (io), C24 IO_L59N_YY (io), C25 IO_L61P (io), C26 IO (io), C27 IO_CS_L69P_YY (io), D5 IO_L1N_Y (io), D6 IO_L4P_YY (io), D7 IO_L7N (io), D8 NC, D9 NC, D10 IO (io), D11 IO_L20P_Y (io), D12 IO_L23P_YY (io), D13 NC, D14 IO_L29N (io), D15 NC, D16 NC, D17 NC, D18 IO_L42N_YY (io), D19 IO_L44N (io), D20 IO (io), D21 NC, D22 IO_L54P (io), D23 IO (io), D24 IO_L62N (io), D25 IO_L64N_YY (io), E6 IO (io), E7 IO_VREF_L5N_YY (io), E8 IO_L8P_YY (io), E9 NC, E10 NC, E11 IO_L20N_Y (io), E12 IO_L24N (io), E13 IO_L28P (io), E14 NC, E15 GCK2 (in), E16 IO_LVDS_DLL_L34P (io), E17 IO_L39P (io), E18 IO_L41N_YY (io), E19 NC, E20 IO_L49P_Y (io), E21 IO_L54N (io), E22 IO_L56P_YY (io), E23 IO_L61N (io), E24 NC, F7 IO (io), F8 IO_L6P (io), F9 IO (io), F10 IO_L12P_YY (io), F11 IO_L19P_Y (io), F12 IO_L22N_YY (io), F13 IO_VREF_L27N_YY (io), F14 NC, F15 IO (io), F16 IO_L35P (io), F17 IO_L40N (io), F18 IO_L45N_YY (io), F19 IO_VREF_L45P_YY (io), F20 IO_L51N_YY (io), F21 IO_L55N_YY (io), F22 NC, F23 NC, F24 IO_L67P_Y (io), G8 IO_L1P_Y (io), G9 IO_L8N_YY (io), G10 IO_L12N_YY (io), G11 IO_L17N (io), G12 IO (io), G13 IO_L25N (io), G14 IO_L28N (io), G15 IO (io), G16 IO_L38P_YY (io), G17 NC, G18 IO_L43P (io), G19 IO_L48N_Y (io), G20 NC, G21 IO_L57N (io), G22 IO_L60P_YY (io), G23 IO_L66P_Y (io), H9 IO_L2P_Y (io), H10 IO_L11P (io), H11 IO_L13P_YY (io), H12 NC, H13 IO_L19N_Y (io), H14 VCCO_0 (power), H15 IO (io), H16 IO_L36P (io), H17 VCCO_1 (power), H18 IO_L44P (io), H19 IO_L53N (io), H20 IO_L56N_YY (io), H21 IO_L60N_YY (io), J10 IO (io), J11 IO_L9P_YY (io), J12 IO_L15P (io), J14 IO_L30P_YY (io), J15 IO_L31P_YY (io), J16 NC, J17 NC, J19 NC, J20 NC, J21 IO_L64P_YY (io), K11 NC, K12 IO (io), K13 IO_L26P_YY (io), K14 IO_VREF_L31N_YY (io), K15 IO_VREF_L37P_YY (io), K16 IO_L38N_YY (io), K17 IO_L46P_YY (io), K18 IO_L49N_Y (io), K19 IO_L58P (io), K20 IO_VREF_L63P_YY (io), K21 IO_WRITE_L69N_YY (io), L13 NC, L14 VCCO_0 (power), L15 VCCO_0 (power), L16 VCCO_1 (power), L17 VCCO_1 (power), L18 NC, M13 VCCO_0 (power), M14 VCCO_0 (power), M15 VCCO_0 (power), M16 VCCO_1 (power), M17 VCCO_1 (power), M18 VCCO_1 (power), N11 IO_L7P (io)
part B pins: AA22 IO_INIT_L141N_YY (io), AA23 NC, AA24 IO_L129N_Y (io), AA25 IO_L128N (io), AA26 NC, AA27 IO_L125N (io), AA28 IO_VREF_L124N_YY (io), AA29 IO_L121P_Y (io), AA30 IO_L120P (io), AB23 IO_L136P (io), AB24 IO_VREF_L135N_Y (io), AB25 IO_L132N (io), AB26 IO_L130P_YY (io), AB27 IO (io), AB28 IO_VREF_L127N (io), AB29 NC, AB30 IO_D5_L123N_YY (io), AC24 IO_L139N_Y (io), AC25 NC, AC26 IO_L133P (io), AC27 IO_VREF_L131N_YY (io), AC28 NC, AC30 IO_L128P (io), AD25 NC, AD26 NC, AD27 IO_L134P_YY (io), AD28 IO_L132P (io), AD29 NC, AD30 IO_L130N_YY (io), AE26 IO_L138P (io), AE27 NC, AE28 IO_L136N (io), AE29 VCCO_3 (power), AE30 IO_L133N (io), AF28 IO (io), AF29 IO_L135P_Y (io), AF30 IO_L134N_YY (io), AG29 IO_L138N (io), AG30 IO (io), AH29 IO_D7_L141P_YY (io), AH30 IO_L139P_Y (io), C29 NC, C30 IO_L73N (io), D28 IO (io), D29 NC, D30 IO_L75P (io), E25 IO_L72N_Y (io), E27 IO_DIN_D0_L70N_YY (io), E28 IO_L73P (io), E29 IO_L78N (io), E30 IO_L77N_YY (io), F27 IO (io), F28 IO_L76N_Y (io), F29 VCCO_2 (power), F30 IO_VREF_L80P_YY (io), G25 IO_L72P_Y (io), G26 NC, G27 IO_L78P (io), G28 IO_L77P_YY (io), G29 IO_L81N_YY (io), G30 IO_L82P_Y (io), H24 NC, H25 IO (io), H26 IO_L79N (io), H27 IO_L81P_YY (io), H28 NC, H30 IO_VREF_L84P (io), J22 IO_DOUT_BUSY_L70P_YY (io), J23 IO_L75N (io), J24 IO_L83P (io), J25 IO (io), J26 IO_L83N (io), J27 NC, J28 IO (io), J29 IO_L86P (io), J30 IO_VREF (io), K22 NC, K23 IO_L79P (io), K24 IO_L86N (io), K25 IO_L90N_Y (io), K26 NC, K27 NC, K28 IO (io), K29 IO_D2_L88N (io), K30 IO (io), L21 IO_VREF_L76P_Y (io), L22 IO_L80N_YY (io), L23 IO_L84N (io), L24 IO_L91P (io), L25 NC, L26 IO_L93P (io), L27 IO_L91N (io), L28 IO_L93N (io), L29 NC, L30 IO_VREF_L94P_Y (io), M21 IO_L82N_Y (io), M22 IO_D1_L88P (io), M23 IO (io), M24 NC, M25 NC, M26 IO_L95P_YY (io), M27 IO_L94N_Y (io), M28 VCCO_2 (power), M29 IO_L95N_YY (io), M30 IO_L96N (io), N19 VCCO_2 (power), N20 IO (io), N21 IO_L90P_Y (io), N23 IO (io), N24 IO_L100N_Y (io), N25 IO_L97P (io), N26 IO_L99P_YY (io), N27 IO_L97N (io), N29 IO_L96P (io), N30 IO_VREF_L98P_YY (io), P19 VCCO_2 (power), P20 VCCO_2 (power), P21 IO_D3_L98N_YY (io), P22 IO_L101P (io), P23 VCCO_2 (power), P24 NC, P25 IO_VREF_2_L102P (io), P26 NC, P27 NC, P28 IO_L99N_YY (io), P29 IO_L100P_Y (io), P30 NC, R19 VCCO_2 (power), R20 VCCO_2 (power), R21 NC, R22 IO_L107P (io), R23 IO_L108P (io), R24 IO_L106P (io), R25 IO_L104P (io), R26 IO_L101N (io), R27 IO (io), R28 IO (io), R29 IO_L102N (io), R30 IO (io), T19 VCCO_3 (power), T20 VCCO_3 (power), T21 IO_L109P (io), T22 NC, T23 IO_L111P_Y (io), T24 IO (io), T25 IO_VREF_L109N (io), T26 NC, T27 IO_L107N (io), T28 IO_L108N (io), T29 NC, T30 IO_L104N (io), U19 VCCO_3 (power), U20 VCCO_3 (power), U21 IO_L115P (io), U22 IO_L114N (io), U23 VCCO_3 (power), U24 IO_D4_L113P_YY (io), U25 IO_L112P_YY (io), U26 NC, U27 IO_L111N_Y (io), U28 IO_L110P (io), U29 IO_L106N (io), U30 IO_L110N (io), V19 VCCO_3 (power), V20 IO_L121N_Y (io), V21 IO_D6_L124P_YY (io), V23 NC, V24 IO (io), V25 NC, V26 IO_L116P_YY (io), V27 IO_L112N_YY (io), V29 IO_VREF_L113N_YY (io), V30 NC, W21 IO_L129P_Y (io), W22 IO_L126P (io), W23 NC, W24 IO_L120N (io), W25 IO_L118P (io), W26 IO_L117P_Y (io), W27 IO_L116N_YY (io), W28 VCCO_3 (power), W29 IO_L115N (io), W30 IO_L114P (io), Y21 IO (io), Y22 IO_L131P_YY (io), Y23 IO_L126N (io), Y24 IO_L127P (io), Y25 IO_L125P (io), Y26 IO_L123P_YY (io), Y27 IO (io), Y28 NC, Y29 IO_VREF_L117N_Y (io), Y30 IO_L118N (io)
part C pins: AA11 NC, AA12 IO_L188P_YY (io), AA13 IO_L187N (io), AA14 NC, AA15 IO_L180P_YY (io), AA16 IO_L169P_YY (io), AA17 IO_L169N_YY (io), AA18 IO_VREF_4 (io), AA19 IO_L158P (io), AA20 IO_L149P (io), AA21 IO_L147P_YY (io), AB10 IO_L207P_YY (io), AB11 IO_L200N (io), AB12 IO_L189P_YY (io), AB14 IO_L182P (io), AB15 IO_L179P (io), AB16 IO_L170N_YY (io), AB17 IO_L167N (io), AB19 IO (io), AB20 IO_L153N (io), AB21 IO_L145P_Y (io), AC9 IO_L209P_Y (io), AC10 IO_L205N (io), AC11 IO_L201P (io), AC12 IO_VREF_5_L195N_YY (io), AC13 IO_L187P (io), AC14 VCCO_5 (power), AC15 NC, AC16 IO (io), AC17 VCCO_4 (power), AC18 NC, AC19 IO (io), AC20 IO_L154P (io), AC21 IO_L150P (io), AC22 NC, AD8 IO (io), AD9 IO_L206P_YY (io), AD10 IO_L204N (io), AD11 IO_L196N (io), AD12 IO_L194P_YY (io), AD13 IO_L185N_YY (io), AD14 IO (io), AD15 NC, AD16 IO_L172N (io), AD17 IO_L168N (io), AD18 NC, AD19 IO (io), AD20 IO (io), AD21 NC, AD22 IO_L148N_YY (io), AD23 IO_L144P_Y (io), AE7 NC, AE8 NC, AE9 IO_L197N (io), AE10 IO (io), AE11 IO_L189N_YY (io), AE12 IO (io), AE13 IO_L186P (io), AE14 IO_L184P_YY (io), AE15 NC, AE16 IO_L173P_YY (io), AE17 IO_L173N_YY (io), AE18 NC, AE19 IO_L165N_YY (io), AE20 IO_L162P_Y (io), AE21 IO (io), AE22 IO_L155N_YY (io), AE23 IO_L153P (io), AE24 NC, AF6 NC, AF7 IO_VREF_5_L202N_YY (io), AF8 IO_L200P (io), AF9 IO_VREF_5_L198N_YY (io), AF10 NC, AF11 IO_L191N_Y (io), AF12 IO_L186N (io), AF13 IO_L182N (io), AF14 IO_VREF_5_L180N_YY (io), AF15 IO_L179N (io), AF16 IO_LVDS_DLL_L177P (io), AF17 NC, AF18 NC, AF19 IO (io), AF20 IO_L163N_Y (io), AF21 IO_L158N (io), AF22 IO_L155P_YY (io), AF23 IO_L152N_YY (io), AF24 IO_L150N (io), AF25 IO_L145N_Y (io), AF27 IO_L142P_YY (io), AG3 NC, AG5 IO_L210P_Y (io), AG6 IO_VREF_5_L206N_YY (io), AG7 IO_L203P_YY (io), AG8 IO_L201N (io), AG9 NC, AG10 NC, AG11 IO_L191P_Y (io), AG12 NC, AG13 IO_VREF_5_L184N_YY (io), AG14 NC, AG15 IO (io), AG16 IO_L176P (io), AG17 IO_VREF_4_L174P_YY (io), AG18 IO_L171P (io), AG19 IO_L167P (io), AG20 IO_L163P_Y (io), AG21 IO_L160P (io), AG22 IO_L156N_YY (io), AG23 IO_L154N (io), AG24 IO_L151P_YY (io), AG25 IO_L147N_YY (io), AG26 NC, AH5 IO (io), AH6 IO_L205P (io), AH8 IO (io), AH9 IO_L199P_YY (io), AH10 IO_L198P_YY (io), AH11 IO_L192P_Y (io), AH12 VCCO_5 (power), AH14 IO_L183P (io), AH15 IO_L181P_YY (io), AH16 IO_LVDS_DLL_L177N (io), AH17 IO (io), AH19 VCCO_4 (power), AH20 IO_L166N_YY (io), AH21 NC, AH22 NC, AH23 IO (io), AH24 NC, AH25 IO_L149N (io), AH26 IO (io), AH27 IO (io), AJ4 IO_L209N_Y (io), AJ5 IO_L207N_YY (io), AJ6 VCCO_5 (power), AJ7 IO_L204P (io), AJ9 IO_L197P (io), AJ10 IO_L195P_YY (io), AJ11 IO_L192N_Y (io), AJ12 IO_VREF_5_L188N_YY (io), AJ13 NC, AJ14 IO_L183N (io), AJ15 NC, AJ16 GCK0 (in), AJ17 IO_L174N_YY (io), AJ18 NC, AJ19 IO_L168P (io), AJ20 IO_L165P_YY (io), AJ21 IO_L162N_Y (io), AJ22 IO_VREF_4_L156P_YY (io), AJ24 IO_VREF_4_L152P_YY (io), AJ25 VCCO_4 (power), AJ26 IO_VREF_4_L148P_YY (io), AJ27 IO_L144N_Y (io), AK4 IO_L210N_Y (io), AK5 NC, AK6 NC, AK7 IO_L203N_YY (io), AK8 IO_L202P_YY (io), AK9 IO_L199N_YY (io), AK10 IO_L196P (io), AK11 IO_L194N_YY (io), AK12 IO (io), AK13 IO_L185P_YY (io), AK14 NC, AK15 IO_L181N_YY (io), AK16 GCK1 (in), AK17 IO_L176N (io), AK18 IO (io), AK19 IO_L172P (io), AK20 IO_L171N (io), AK21 IO_VREF_4_L170P_YY (io), AK22 IO_VREF_4_L166P_YY (io), AK23 IO_L160N (io), AK24 NC, AK25 NC, AK26 IO_L151N_YY (io), AK27 NC, AK28 IO_L142N_YY (io), W13 VCCO_5 (power), W14 VCCO_5 (power), W15 VCCO_5 (power), W16 VCCO_4 (power), W17 VCCO_4 (power), W18 VCCO_4 (power), Y13 NC, Y14 VCCO_5 (power), Y15 VCCO_5 (power), Y16 VCCO_4 (power), Y17 VCCO_4 (power)
part D pins: AA1 NC, AA2 IO (io), AA3 IO_L230P (io), AA4 IO (io), AA5 NC, AA6 IO_L232P_Y (io), AA7 IO_L221P (io), AA8 IO_L221N (io), AA9 IO_VREF_L218N_Y (io), AA10 IO_L217P (io), AB1 IO_L228N (io), AB2 IO_VREF_L240N_YY (io), AB3 IO_VREF_L226N (io), AB4 IO_L225P (io), AB5 NC, AB6 IO_L223N_YY (io), AB7 NC, AB8 NC, AB9 IO_L214N_Y (io), AC1 IO_VREF (io), AC3 NC, AC4 IO_L223P_YY (io), AC5 NC, AC6 IO_L212P_YY (io), AD1 IO (io), AD2 IO_L219P_YY (io), AD3 IO_L220N (io), AD4 IO_L218P_Y (io), AD5 IO_L219N_YY (io), AD6 IO (io), AE1 IO_L224N_Y (io), AE2 VCCO_6 (power), AE3 IO_L215N (io), AE4 IO_L214P_Y (io), AE5 NC, AF1 IO_VREF_L222N_YY (io), AF2 IO_L220P (io), AF3 IO_L212N_YY (io), AG1 IO_L217N (io), AG2 IO (io), AH1 IO_L215P (io), AH2 NC, C2 IO_L280P (io), D1 IO (io), D2 IO_L281N_Y (io), D3 NC, E1 IO_L275P (io), E2 IO_L276P_YY (io), E3 IO (io), E4 IO_L277N_Y (io), F1 NC, F2 VCCO_7 (power), F3 IO_L274N (io), F4 IO_L278P (io), F5 IO_L281P_Y (io), G1 NC, G2 IO_L272P_YY (io), G3 IO_L275N (io), G4 NC, G5 IO_VREF_L273P_YY (io), G6 IO_L280N (io), H1 IO_L270N (io), H3 NC, H4 IO_VREF_L269P (io), H5 IO_L272N_YY (io), H6 IO_L276N_YY (io), H7 NC, J1 NC, J2 IO_L271P_Y (io), J3 NC, J4 IO (io), J5 IO_L268P (io), J6 IO (io), J7 IO_L271N_Y (io), J8 IO_L278N (io), K1 IO_L265P_YY (io), K2 IO_L263N_Y (io), K3 IO_VREF_L266P_YY (io), K4 IO_L267P (io), K5 IO_L265N_YY (io), K6 IO_L269N (io), K7 IO_L270P (io), K8 IO_L274P (io), K9 IO_VREF_L277P_Y (io), K10 IO (io), L1 IO_L262N (io), L2 IO_L260P (io), L3 IO (io), L4 IO_L260N (io), L5 NC, L6 IO_L266N_YY (io), L7 IO_L267N (io), L8 IO_L268N (io), L9 IO_L273N_YY (io), L10 NC, M1 IO_VREF_L259P_Y (io), M2 IO_L259N_Y (io), M3 VCCO_7 (power), M4 IO_L258N_YY (io), M5 IO_L258P_YY (io), M6 IO_L256N (io), M7 IO (io), M8 IO_L262P (io), M9 IO_L263P_Y (io), M10 NC, N1 IO_L257P (io), N2 NC, N4 IO_L254N_YY (io), N5 IO_L257N (io), N6 IO_L256P (io), N7 IO_L255N_YY (io), N8 IO (io), N10 NC, N12 VCCO_7 (power), P1 IO_VREF_L255P_YY (io), P2 IO_L252P (io), P3 NC, P4 IO_L253P_Y (io), P5 IO_L252N (io), P6 IO_VREF_L251P (io), P7 IO_L253N_Y (io), P8 VCCO_7 (power), P9 NC, P10 IO_L251N (io), P11 VCCO_7 (power), P12 VCCO_7 (power), R1 NC, R2 IO_L254P_YY (io), R3 IO_L250P (io), R4 IO_L249P (io), R5 IO (io), R6 NC, R7 IO_L250N (io), R8 IO_L249N (io), R9 NC, R10 IO_L247P (io), R11 VCCO_7 (power), R12 VCCO_7 (power), T1 IO_L247N (io), T2 NC, T3 NC, T4 IO_L246N (io), T5 IO_VREF_L244N (io), T6 IO (io), T7 IO_L243N (io), T8 IO_L240P_YY (io), T9 IO_L242P_Y (io), T10 NC, T11 VCCO_6 (power), T12 VCCO_6 (power), U1 IO (io), U2 IO_L246P (io), U3 IO_L243P (io), U4 NC, U5 IO_L241N_YY (io), U6 IO (io), U7 NC, U8 VCCO_6 (power), U9 IO_L239N (io), U10 NC, U11 VCCO_6 (power), U12 VCCO_6 (power), V1 NC, V2 IO_L244P (io), V4 IO_L239P (io), V5 NC, V6 IO_L238N (io), V7 IO (io), V8 IO (io), V10 IO_L228P (io), V11 IO_L230N (io), V12 VCCO_6 (power), W1 IO_L241P_YY (io), W2 IO_L238P (io), W3 VCCO_6 (power), W4 IO_L237N_YY (io), W5 IO_L236P_Y (io), W6 IO_L237P_YY (io), W7 IO_L232N_Y (io), W8 IO_L224P_Y (io), W9 IO_L226P (io), W10 IO (io), Y1 IO_L242N_Y (io), Y2 IO_L235P (io), Y3 IO_L235N (io), Y4 IO_L233P (io), Y5 IO_VREF_L236N_Y (io), Y6 IO_L233N (io), Y7 NC, Y8 IO_L225N (io), Y9 IO_L222P_YY (io), Y10 IO (io)
part E pins: A1 GND (power), A2 GND (power), A29 GND (power), A30 GND (power), AB13 GND (power), AB18 GND (power), AB22 GND (power), AC2 GND (power), AC7 M1 (in), AC8 GND (power), AC23 GND (power), AC29 GND (power), AD7 GND (power), AD24 GND (power), AE6 GND (power), AE25 GND (power), AF4 M0 (in), AF5 GND (power), AF26 GND (power), AG4 GND (power), AG27 GND (power), AG28 PROGRAM (in), AH3 GND (power), AH4 DXP, AH7 GND (power), AH13 GND (power), AH18 GND (power), AH28 GND (power), AJ1 GND (power), AJ2 GND (power), AJ3 DXN, AJ8 GND (power), AJ23 GND (power), AJ28 DONE (io), AJ29 GND (power), AJ30 GND (power), AK1 GND (power), AK2 GND (power), AK3 M2 (in), AK29 GND (power), AK30 GND (power), B1 GND (power), B2 GND (power), B3 TCK (in), B8 GND (power), B23 GND (power), B29 GND (power), B30 GND (power), C1 TMS (in), C3 GND (power), C13 GND (power), C18 GND (power), C28 GND (power), D4 GND (power), D26 TDO (out), D27 GND (power), E5 GND (power), E26 GND (power), F6 GND (power), F25 GND (power), F26 CCLK (io), G7 GND (power), G24 GND (power), H2 GND (power), H8 GND (power), H22 TDI (in), H23 GND (power), H29 GND (power), J9 GND (power), J13 GND (power), J18 GND (power), L11 VCCINT (power), L12 VCCINT (power), L19 VCCINT (power), L20 VCCINT (power), M11 VCCINT (power), M12 VCCINT (power), M19 VCCINT (power), M20 VCCINT (power), N3 GND (power), N9 GND (power), N13 VCCINT (power), N14 VCCINT (power), N15 VCCINT (power), N16 VCCINT (power), N17 VCCINT (power), N18 VCCINT (power), N22 GND (power), N28 GND (power), P13 VCCINT (power), P14 GND (power), P15 GND (power), P16 GND (power), P17 GND (power), P18 VCCINT (power), R13 VCCINT (power), R14 GND (power), R15 GND (power), R16 GND (power), R17 GND (power), R18 VCCINT (power), T13 VCCINT (power), T14 GND (power), T15 GND (power), T16 GND (power), T17 GND (power), T18 VCCINT (power), U13 VCCINT (power), U14 GND (power), U15 GND (power), U16 GND (power), U17 GND (power), U18 VCCINT (power), V3 GND (power), V9 GND (power), V13 VCCINT (power), V14 VCCINT (power), V15 VCCINT (power), V16 VCCINT (power), V17 VCCINT (power), V18 VCCINT (power), V22 GND (power), V28 GND (power), W11 VCCINT (power), W12 VCCINT (power), W19 VCCINT (power), W20 VCCINT (power), Y11 VCCINT (power), Y12 VCCINT (power), Y18 GND (power), Y19 VCCINT (power), Y20 VCCINT (power)
part A text: BANK 0; BANK 1
part B text: BANK 2; BANK 3
part C text: BANK 4; BANK 5
part D text: BANK 6; BANK 7

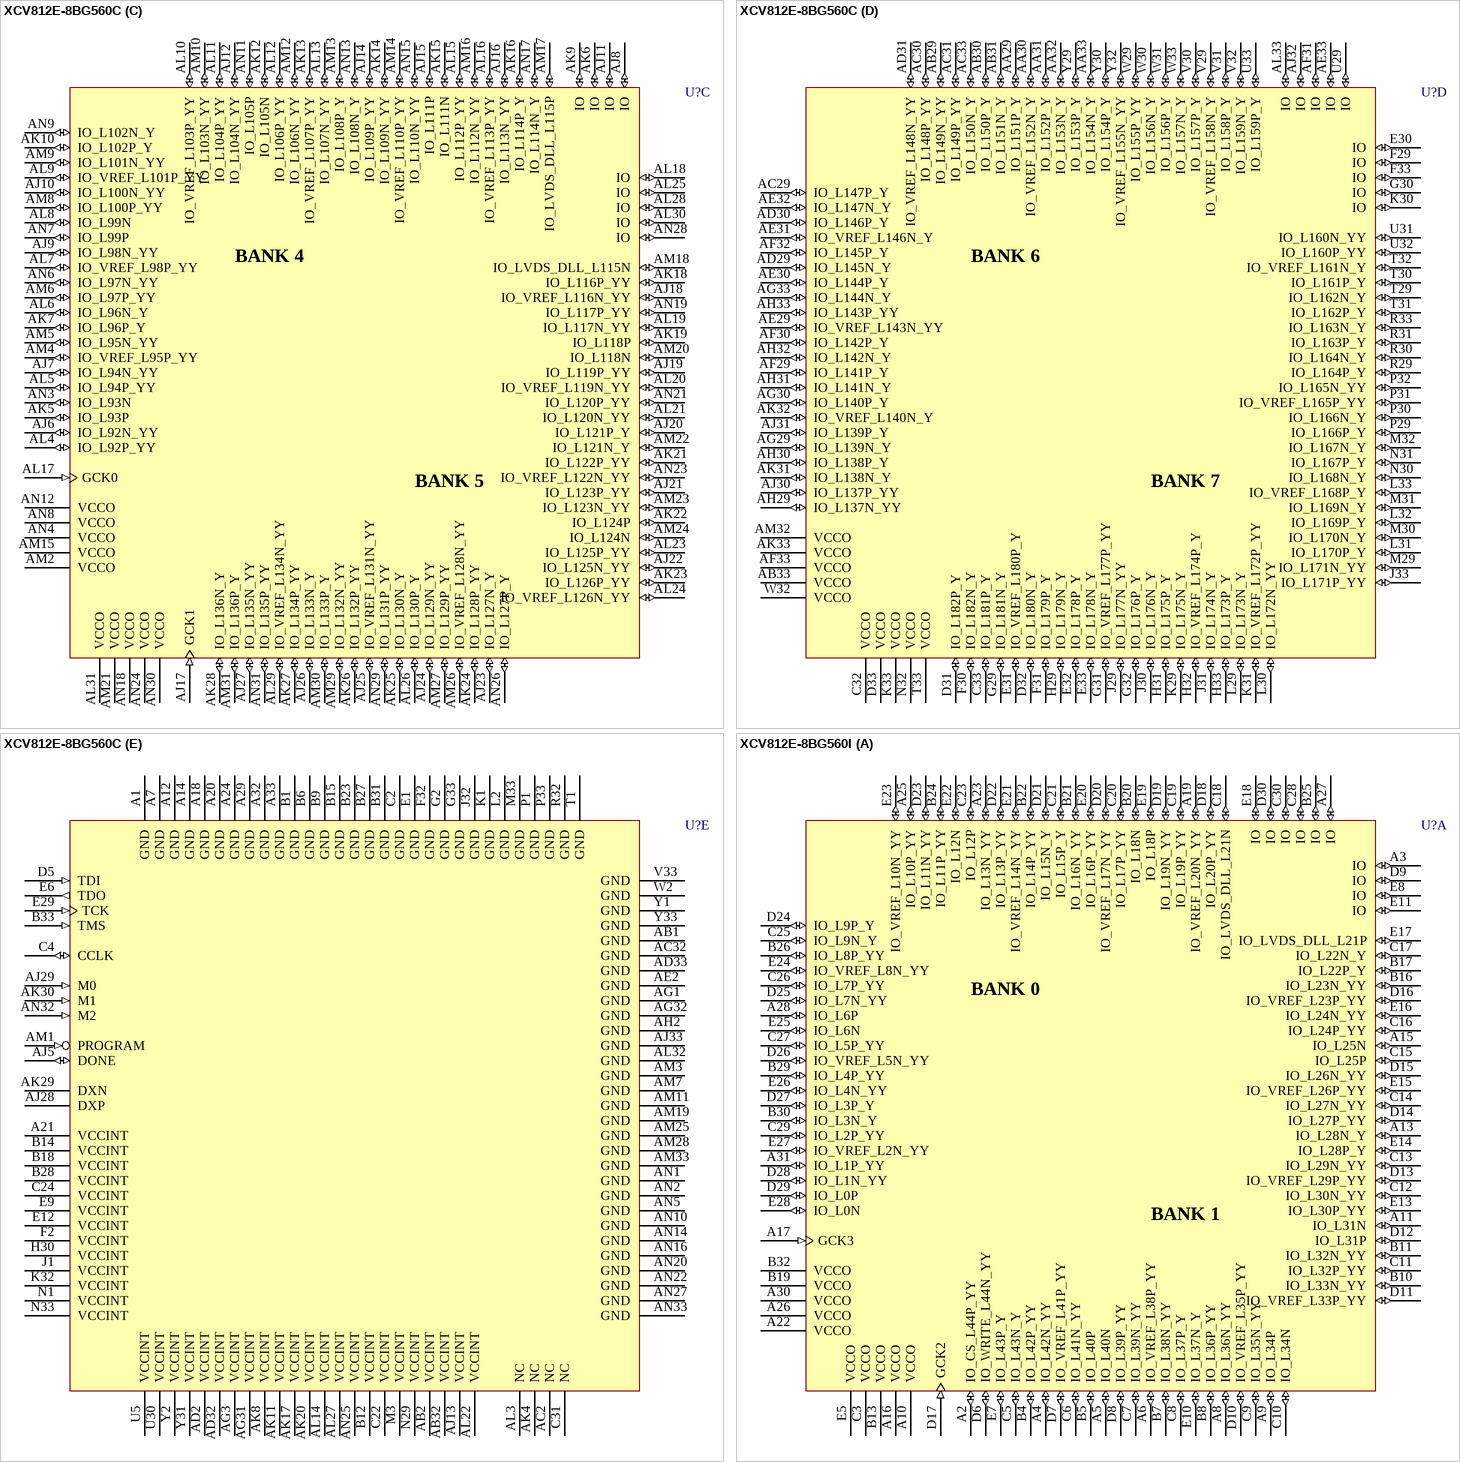
[diagram p306: symbols XCV812E-8BG560C to XCV812E-8BG560I]